# Altium schematic symbol library 3.4 - Holtek合泰单片机.SchLib: 87 symbols (part 1 of 2)
Pins are listed as number, name and electrical type; pins without a type are passive.

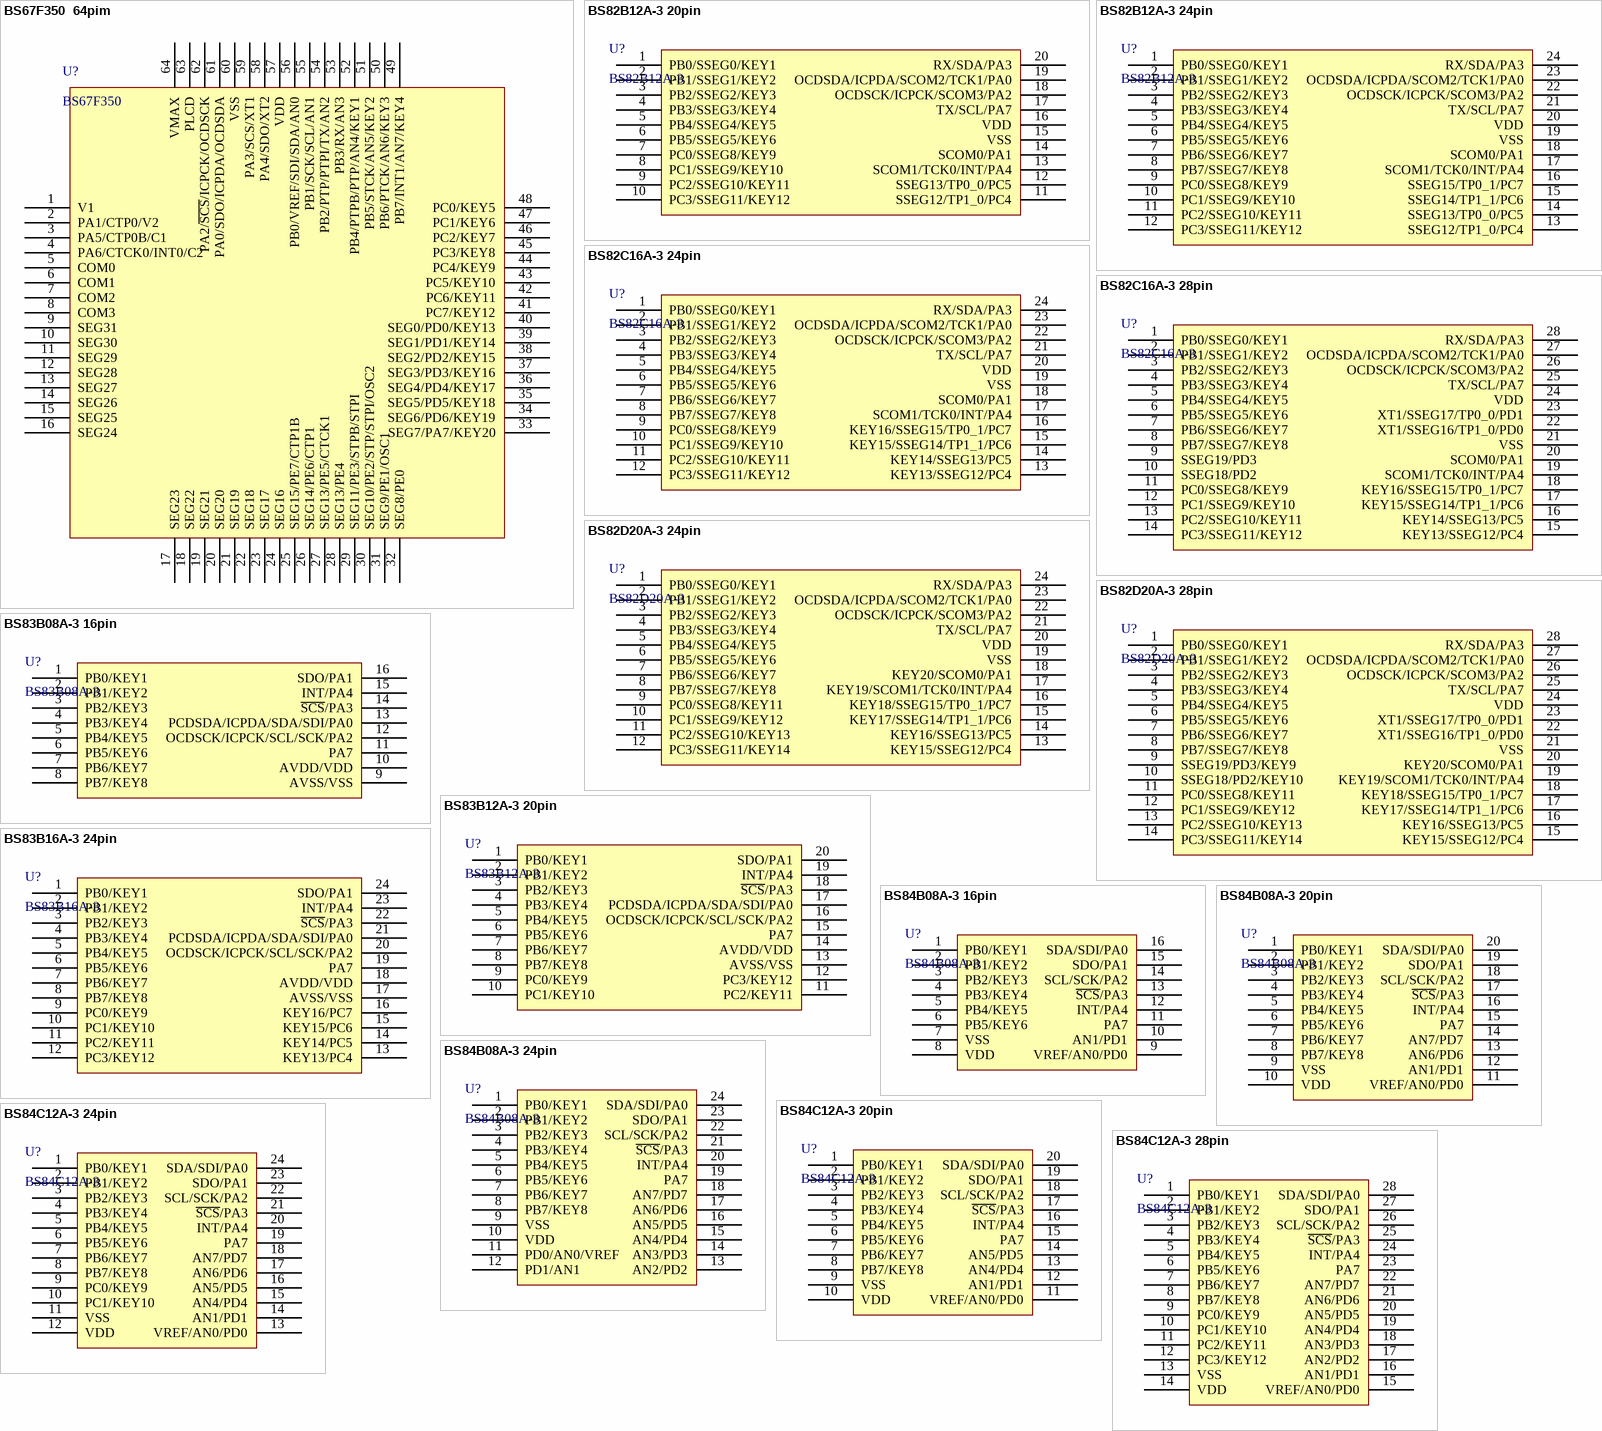
[diagram p0: symbols BS67F350  64pim to BS84C12A-3 28pin]

## BS67F350  64pim
designator U?, comment BS67F350
LCD/AD增强触控型; 1.库作者: 冰凌猫; 2.库版本: v2.0 (2021.03.30); 3.交流分享: Q群514746572,开源更新,欢迎一起交流学习PCB设计; 4.作者声明: 旨为整合最全库集,欢迎转载,禁止商用！-冰凌猫; 5.备注说明: 该库已二次整合过网上各热销库,基本最全,无需重复搜购安装; 0.0_BOM名称: LCD/AD增强触控型
footprint LQFP64 7x7_L (64脚，体宽：7x7mm, 脚距：0.4mm)
footprint LQFP64 7x7_M (64脚，体宽：7x7mm, 脚距：0.4mm)
footprint LQFP64 7x7_N (64脚，体宽：7x7mm, 脚距：0.4mm)
pins: 1 V1, 2 PA1/CTP0/V2, 3 PA5/CTP0B/C1, 4 PA6/CTCK0/INT0/C2, 5 COM0, 6 COM1, 7 COM2, 8 COM3, 9 SEG31, 10 SEG30, 11 SEG29, 12 SEG28, 13 SEG27, 14 SEG26, 15 SEG25, 16 SEG24, 17 SEG23, 18 SEG22, 19 SEG21, 20 SEG20, 21 SEG19, 22 SEG18, 23 SEG17, 24 SEG16, 25 SEG15/PE7/CTP1B, 26 SEG14/PE6/CTP1, 27 SEG13/PE5/CTCK1, 28 SEG13/PE4, 29 SEG11/PE3/STPB/STPI, 30 SEG10/PE2/STP/STPI/OSC2, 31 SEG9/PE1/OSC1, 32 SEG8/PE0, 33 SEG7/PA7/KEY20, 34 SEG6/PD6/KEY19, 35 SEG5/PD5/KEY18, 36 SEG4/PD4/KEY17, 37 SEG3/PD3/KEY16, 38 SEG2/PD2/KEY15, 39 SEG1/PD1/KEY14, 40 SEG0/PD0/KEY13, 41 PC7/KEY12, 42 PC6/KEY11, 43 PC5/KEY10, 44 PC4/KEY9, 45 PC3/KEY8, 46 PC2/KEY7, 47 PC1/KEY6, 48 PC0/KEY5, 49 PB7/INT1/AN7/KEY4, 50 PB6/PTCK/AN6/KEY3, 51 PB5/STCK/AN5/KEY2, 52 PB4/PTPB/PTP/AN4/KEY1, 53 PB3/RX/AN3, 54 PB2/PTP/PTPI/TX/AN2, 55 PB1/SCK/SCL/AN1, 56 PB0/VREF/SDI/SDA/AN0, 57 VDD, 58 PA4/SDO/XT2, 59 PA3/SCS/XT1, 60 VSS, 61 PA0/SDO/ICPDA/OCDSDA, 62 PA2/~{SCS}/ICPCK/OCDSCK, 63 PLCD, 64 VMAX

## BS82B12A-3 20pin
designator U?, comment BS82B12A-3
LCD/LED/触控型; 1.库作者: 冰凌猫; 2.库版本: v2.0 (2021.03.30); 3.交流分享: Q群514746572,开源更新,欢迎一起交流学习PCB设计; 4.作者声明: 旨为整合最全库集,欢迎转载,禁止商用！-冰凌猫; 5.备注说明: 该库已二次整合过网上各热销库,基本最全,无需重复搜购安装; 0.0_BOM名称: LCD/LED/触控型
footprint SOP20_L (13*10.6*2.6（长宽高）)
footprint SOP20_N (13*10.6*2.6（长宽高）)
footprint SOP20_M (13*10.6*2.6（长宽高）)
pins: 1 PB0/SSEG0/KEY1, 2 PB1/SSEG1/KEY2, 3 PB2/SSEG2/KEY3, 4 PB3/SSEG3/KEY4, 5 PB4/SSEG4/KEY5, 6 PB5/SSEG5/KEY6, 7 PC0/SSEG8/KEY9, 8 PC1/SSEG9/KEY10, 9 PC2/SSEG10/KEY11, 10 PC3/SSEG11/KEY12, 11 SSEG12/TP1_0/PC4, 12 SSEG13/TP0_0/PC5, 13 SCOM1/TCK0/INT/PA4, 14 SCOM0/PA1, 15 VSS, 16 VDD, 17 TX/SCL/PA7, 18 OCDSCK/ICPCK/SCOM3/PA2, 19 OCDSDA/ICPDA/SCOM2/TCK1/PA0, 20 RX/SDA/PA3

## BS82B12A-3 24pin
designator U?, comment BS82B12A-3
LCD/LED/触控型; 1.库作者: 冰凌猫; 2.库版本: v2.0 (2021.03.30); 3.交流分享: Q群514746572,开源更新,欢迎一起交流学习PCB设计; 4.作者声明: 旨为整合最全库集,欢迎转载,禁止商用！-冰凌猫; 5.备注说明: 该库已二次整合过网上各热销库,基本最全,无需重复搜购安装; 0.0_BOM名称: LCD/LED/触控型
footprint SOP24_L (15.4*10.6*2.6mm（长宽高）)
footprint SOP24_N (15.4*10.6*2.6mm（长宽高）)
footprint SOP24_M (15.4*10.6*2.6mm（长宽高）)
pins: 1 PB0/SSEG0/KEY1, 2 PB1/SSEG1/KEY2, 3 PB2/SSEG2/KEY3, 4 PB3/SSEG3/KEY4, 5 PB4/SSEG4/KEY5, 6 PB5/SSEG5/KEY6, 7 PB6/SSEG6/KEY7, 8 PB7/SSEG7/KEY8, 9 PC0/SSEG8/KEY9, 10 PC1/SSEG9/KEY10, 11 PC2/SSEG10/KEY11, 12 PC3/SSEG11/KEY12, 13 SSEG12/TP1_0/PC4, 14 SSEG13/TP0_0/PC5, 15 SSEG14/TP1_1/PC6, 16 SSEG15/TP0_1/PC7, 17 SCOM1/TCK0/INT/PA4, 18 SCOM0/PA1, 19 VSS, 20 VDD, 21 TX/SCL/PA7, 22 OCDSCK/ICPCK/SCOM3/PA2, 23 OCDSDA/ICPDA/SCOM2/TCK1/PA0, 24 RX/SDA/PA3

## BS82C16A-3 24pin
designator U?, comment BS82C16A-3
LCD/LED/触控型; 1.库作者: 冰凌猫; 2.库版本: v2.0 (2021.03.30); 3.交流分享: Q群514746572,开源更新,欢迎一起交流学习PCB设计; 4.作者声明: 旨为整合最全库集,欢迎转载,禁止商用！-冰凌猫; 5.备注说明: 该库已二次整合过网上各热销库,基本最全,无需重复搜购安装; 0.0_BOM名称: LCD/LED/触控型
footprint SOP24_L (15.4*10.6*2.6mm（长宽高）)
footprint SOP24_N (15.4*10.6*2.6mm（长宽高）)
footprint SOP24_M (15.4*10.6*2.6mm（长宽高）)
pins: 1 PB0/SSEG0/KEY1, 2 PB1/SSEG1/KEY2, 3 PB2/SSEG2/KEY3, 4 PB3/SSEG3/KEY4, 5 PB4/SSEG4/KEY5, 6 PB5/SSEG5/KEY6, 7 PB6/SSEG6/KEY7, 8 PB7/SSEG7/KEY8, 9 PC0/SSEG8/KEY9, 10 PC1/SSEG9/KEY10, 11 PC2/SSEG10/KEY11, 12 PC3/SSEG11/KEY12, 13 KEY13/SSEG12/PC4, 14 KEY14/SSEG13/PC5, 15 KEY15/SSEG14/TP1_1/PC6, 16 KEY16/SSEG15/TP0_1/PC7, 17 SCOM1/TCK0/INT/PA4, 18 SCOM0/PA1, 19 VSS, 20 VDD, 21 TX/SCL/PA7, 22 OCDSCK/ICPCK/SCOM3/PA2, 23 OCDSDA/ICPDA/SCOM2/TCK1/PA0, 24 RX/SDA/PA3

## BS82C16A-3 28pin
designator U?, comment BS82C16A-3
LCD/LED/触控型; 1.库作者: 冰凌猫; 2.库版本: v2.0 (2021.03.30); 3.交流分享: Q群514746572,开源更新,欢迎一起交流学习PCB设计; 4.作者声明: 旨为整合最全库集,欢迎转载,禁止商用！-冰凌猫; 5.备注说明: 该库已二次整合过网上各热销库,基本最全,无需重复搜购安装; 0.0_BOM名称: LCD/LED/触控型
footprint SOP28_L (17.9*10.6*2.6mm（长宽高）)
footprint SOP28_N (17.9*10.6*2.6mm（长宽高）)
footprint SOP28_M (17.9*10.6*2.6mm（长宽高）)
pins: 1 PB0/SSEG0/KEY1, 2 PB1/SSEG1/KEY2, 3 PB2/SSEG2/KEY3, 4 PB3/SSEG3/KEY4, 5 PB4/SSEG4/KEY5, 6 PB5/SSEG5/KEY6, 7 PB6/SSEG6/KEY7, 8 PB7/SSEG7/KEY8, 9 SSEG19/PD3, 10 SSEG18/PD2, 11 PC0/SSEG8/KEY9, 12 PC1/SSEG9/KEY10, 13 PC2/SSEG10/KEY11, 14 PC3/SSEG11/KEY12, 15 KEY13/SSEG12/PC4, 16 KEY14/SSEG13/PC5, 17 KEY15/SSEG14/TP1_1/PC6, 18 KEY16/SSEG15/TP0_1/PC7, 19 SCOM1/TCK0/INT/PA4, 20 SCOM0/PA1, 21 VSS, 22 XT1/SSEG16/TP1_0/PD0, 23 XT1/SSEG17/TP0_0/PD1, 24 VDD, 25 TX/SCL/PA7, 26 OCDSCK/ICPCK/SCOM3/PA2, 27 OCDSDA/ICPDA/SCOM2/TCK1/PA0, 28 RX/SDA/PA3

## BS82D20A-3 24pin
designator U?, comment BS82D20A-3
LCD/LED/触控型; 1.库作者: 冰凌猫; 2.库版本: v2.0 (2021.03.30); 3.交流分享: Q群514746572,开源更新,欢迎一起交流学习PCB设计; 4.作者声明: 旨为整合最全库集,欢迎转载,禁止商用！-冰凌猫; 5.备注说明: 该库已二次整合过网上各热销库,基本最全,无需重复搜购安装; 0.0_BOM名称: LCD/LED/触控型
footprint SOP24_L (15.4*10.6*2.6mm（长宽高）)
footprint SOP24_N (15.4*10.6*2.6mm（长宽高）)
footprint SOP24_M (15.4*10.6*2.6mm（长宽高）)
pins: 1 PB0/SSEG0/KEY1, 2 PB1/SSEG1/KEY2, 3 PB2/SSEG2/KEY3, 4 PB3/SSEG3/KEY4, 5 PB4/SSEG4/KEY5, 6 PB5/SSEG5/KEY6, 7 PB6/SSEG6/KEY7, 8 PB7/SSEG7/KEY8, 9 PC0/SSEG8/KEY11, 10 PC1/SSEG9/KEY12, 11 PC2/SSEG10/KEY13, 12 PC3/SSEG11/KEY14, 13 KEY15/SSEG12/PC4, 14 KEY16/SSEG13/PC5, 15 KEY17/SSEG14/TP1_1/PC6, 16 KEY18/SSEG15/TP0_1/PC7, 17 KEY19/SCOM1/TCK0/INT/PA4, 18 KEY20/SCOM0/PA1, 19 VSS, 20 VDD, 21 TX/SCL/PA7, 22 OCDSCK/ICPCK/SCOM3/PA2, 23 OCDSDA/ICPDA/SCOM2/TCK1/PA0, 24 RX/SDA/PA3

## BS82D20A-3 28pin
designator U?, comment BS82D20A-3
LCD/LED/触控型; 1.库作者: 冰凌猫; 2.库版本: v2.0 (2021.03.30); 3.交流分享: Q群514746572,开源更新,欢迎一起交流学习PCB设计; 4.作者声明: 旨为整合最全库集,欢迎转载,禁止商用！-冰凌猫; 5.备注说明: 该库已二次整合过网上各热销库,基本最全,无需重复搜购安装; 0.0_BOM名称: LCD/LED/触控型
footprint SOP28_L (17.9*10.6*2.6mm（长宽高）)
footprint SOP28_N (17.9*10.6*2.6mm（长宽高）)
footprint SOP28_M (17.9*10.6*2.6mm（长宽高）)
pins: 1 PB0/SSEG0/KEY1, 2 PB1/SSEG1/KEY2, 3 PB2/SSEG2/KEY3, 4 PB3/SSEG3/KEY4, 5 PB4/SSEG4/KEY5, 6 PB5/SSEG5/KEY6, 7 PB6/SSEG6/KEY7, 8 PB7/SSEG7/KEY8, 9 SSEG19/PD3/KEY9, 10 SSEG18/PD2/KEY10, 11 PC0/SSEG8/KEY11, 12 PC1/SSEG9/KEY12, 13 PC2/SSEG10/KEY13, 14 PC3/SSEG11/KEY14, 15 KEY15/SSEG12/PC4, 16 KEY16/SSEG13/PC5, 17 KEY17/SSEG14/TP1_1/PC6, 18 KEY18/SSEG15/TP0_1/PC7, 19 KEY19/SCOM1/TCK0/INT/PA4, 20 KEY20/SCOM0/PA1, 21 VSS, 22 XT1/SSEG16/TP1_0/PD0, 23 XT1/SSEG17/TP0_0/PD1, 24 VDD, 25 TX/SCL/PA7, 26 OCDSCK/ICPCK/SCOM3/PA2, 27 OCDSDA/ICPDA/SCOM2/TCK1/PA0, 28 RX/SDA/PA3

## BS83B08A-3 16pin
designator U?, comment BS83B08A-3
触控型; 1.库作者: 冰凌猫; 2.库版本: v2.0 (2021.03.30); 3.交流分享: Q群514746572,开源更新,欢迎一起交流学习PCB设计; 4.作者声明: 旨为整合最全库集,欢迎转载,禁止商用！-冰凌猫; 5.备注说明: 该库已二次整合过网上各热销库,基本最全,无需重复搜购安装; 0.0_BOM名称: 触控型
footprint SOP16_L (10.3*6.2*1.8mm（长宽高）)
footprint SOP16_N (10.3*6.2*1.8mm（长宽高）)
footprint SOP16_M (10.3*6.2*1.8mm（长宽高）)
footprint SSOP16_L (6.3*7.7*1.6mm（长宽高）)
footprint SSOP16_N (6.3*7.7*1.6mm（长宽高）)
footprint SSOP16_M (6.3*7.7*1.6mm（长宽高）)
pins: 1 PB0/KEY1, 2 PB1/KEY2, 3 PB2/KEY3, 4 PB3/KEY4, 5 PB4/KEY5, 6 PB5/KEY6, 7 PB6/KEY7, 8 PB7/KEY8, 9 AVSS/VSS, 10 AVDD/VDD, 11 PA7, 12 OCDSCK/ICPCK/SCL/SCK/PA2, 13 PCDSDA/ICPDA/SDA/SDI/PA0, 14 ~{SCS}/PA3, 15 INT/PA4, 16 SDO/PA1

## BS83B12A-3 20pin
designator U?, comment BS83B12A-3
触控型; 1.库作者: 冰凌猫; 2.库版本: v2.0 (2021.03.30); 3.交流分享: Q群514746572,开源更新,欢迎一起交流学习PCB设计; 4.作者声明: 旨为整合最全库集,欢迎转载,禁止商用！-冰凌猫; 5.备注说明: 该库已二次整合过网上各热销库,基本最全,无需重复搜购安装; 0.0_BOM名称: 触控型
footprint SOP20_L (13*10.6*2.6（长宽高）)
footprint SOP20_N (13*10.6*2.6（长宽高）)
footprint SOP20_M (13*10.6*2.6（长宽高）)
footprint SSOP20_L (7.2*7.8*1.6（长宽高）)
footprint SSOP20_N (7.2*7.8*1.6（长宽高）)
footprint SSOP20_M (7.2*7.8*1.6（长宽高）)
pins: 1 PB0/KEY1, 2 PB1/KEY2, 3 PB2/KEY3, 4 PB3/KEY4, 5 PB4/KEY5, 6 PB5/KEY6, 7 PB6/KEY7, 8 PB7/KEY8, 9 PC0/KEY9, 10 PC1/KEY10, 11 PC2/KEY11, 12 PC3/KEY12, 13 AVSS/VSS, 14 AVDD/VDD, 15 PA7, 16 OCDSCK/ICPCK/SCL/SCK/PA2, 17 PCDSDA/ICPDA/SDA/SDI/PA0, 18 ~{SCS}/PA3, 19 INT/PA4, 20 SDO/PA1

## BS83B16A-3 24pin
designator U?, comment BS83B16A-3
触控型; 1.库作者: 冰凌猫; 2.库版本: v2.0 (2021.03.30); 3.交流分享: Q群514746572,开源更新,欢迎一起交流学习PCB设计; 4.作者声明: 旨为整合最全库集,欢迎转载,禁止商用！-冰凌猫; 5.备注说明: 该库已二次整合过网上各热销库,基本最全,无需重复搜购安装; 0.0_BOM名称: 触控型
footprint SOP24_L (15.4*10.6*2.6mm（长宽高）)
footprint SOP24_N (15.4*10.6*2.6mm（长宽高）)
footprint SOP24_M (15.4*10.6*2.6mm（长宽高）)
footprint SSOP24_L (8.3*7.8*1.6（长宽高）)
footprint SSOP24_N (8.3*7.8*1.6（长宽高）)
footprint SSOP24_M (8.3*7.8*1.6（长宽高）)
pins: 1 PB0/KEY1, 2 PB1/KEY2, 3 PB2/KEY3, 4 PB3/KEY4, 5 PB4/KEY5, 6 PB5/KEY6, 7 PB6/KEY7, 8 PB7/KEY8, 9 PC0/KEY9, 10 PC1/KEY10, 11 PC2/KEY11, 12 PC3/KEY12, 13 KEY13/PC4, 14 KEY14/PC5, 15 KEY15/PC6, 16 KEY16/PC7, 17 AVSS/VSS, 18 AVDD/VDD, 19 PA7, 20 OCDSCK/ICPCK/SCL/SCK/PA2, 21 PCDSDA/ICPDA/SDA/SDI/PA0, 22 ~{SCS}/PA3, 23 INT/PA4, 24 SDO/PA1

## BS84B08A-3 16pin
designator U?, comment BS84B08A-3
AD/触控型; 1.库作者: 冰凌猫; 2.库版本: v2.0 (2021.03.30); 3.交流分享: Q群514746572,开源更新,欢迎一起交流学习PCB设计; 4.作者声明: 旨为整合最全库集,欢迎转载,禁止商用！-冰凌猫; 5.备注说明: 该库已二次整合过网上各热销库,基本最全,无需重复搜购安装; 0.0_BOM名称: AD/触控型
footprint SOP16_L (10.3*6.2*1.8mm（长宽高）)
footprint SOP16_N (10.3*6.2*1.8mm（长宽高）)
footprint SOP16_M (10.3*6.2*1.8mm（长宽高）)
pins: 1 PB0/KEY1, 2 PB1/KEY2, 3 PB2/KEY3, 4 PB3/KEY4, 5 PB4/KEY5, 6 PB5/KEY6, 7 VSS, 8 VDD, 9 VREF/AN0/PD0, 10 AN1/PD1, 11 PA7, 12 INT/PA4, 13 ~{SCS}/PA3, 14 SCL/SCK/PA2, 15 SDO/PA1, 16 SDA/SDI/PA0

## BS84B08A-3 20pin
designator U?, comment BS84B08A-3
AD/触控型; 1.库作者: 冰凌猫; 2.库版本: v2.0 (2021.03.30); 3.交流分享: Q群514746572,开源更新,欢迎一起交流学习PCB设计; 4.作者声明: 旨为整合最全库集,欢迎转载,禁止商用！-冰凌猫; 5.备注说明: 该库已二次整合过网上各热销库,基本最全,无需重复搜购安装; 0.0_BOM名称: AD/触控型
footprint SOP20_L (13*10.6*2.6（长宽高）)
footprint SOP20_N (13*10.6*2.6（长宽高）)
footprint SOP20_M (13*10.6*2.6（长宽高）)
pins: 1 PB0/KEY1, 2 PB1/KEY2, 3 PB2/KEY3, 4 PB3/KEY4, 5 PB4/KEY5, 6 PB5/KEY6, 7 PB6/KEY7, 8 PB7/KEY8, 9 VSS, 10 VDD, 11 VREF/AN0/PD0, 12 AN1/PD1, 13 AN6/PD6, 14 AN7/PD7, 15 PA7, 16 INT/PA4, 17 ~{SCS}/PA3, 18 SCL/SCK/PA2, 19 SDO/PA1, 20 SDA/SDI/PA0

## BS84B08A-3 24pin
designator U?, comment BS84B08A-3
AD/触控型; 1.库作者: 冰凌猫; 2.库版本: v2.0 (2021.03.30); 3.交流分享: Q群514746572,开源更新,欢迎一起交流学习PCB设计; 4.作者声明: 旨为整合最全库集,欢迎转载,禁止商用！-冰凌猫; 5.备注说明: 该库已二次整合过网上各热销库,基本最全,无需重复搜购安装; 0.0_BOM名称: AD/触控型
footprint SOP24_L (15.4*10.6*2.6mm（长宽高）)
footprint SOP24_N (15.4*10.6*2.6mm（长宽高）)
footprint SOP24_M (15.4*10.6*2.6mm（长宽高）)
pins: 1 PB0/KEY1, 2 PB1/KEY2, 3 PB2/KEY3, 4 PB3/KEY4, 5 PB4/KEY5, 6 PB5/KEY6, 7 PB6/KEY7, 8 PB7/KEY8, 9 VSS, 10 VDD, 11 PD0/AN0/VREF, 12 PD1/AN1, 13 AN2/PD2, 14 AN3/PD3, 15 AN4/PD4, 16 AN5/PD5, 17 AN6/PD6, 18 AN7/PD7, 19 PA7, 20 INT/PA4, 21 ~{SCS}/PA3, 22 SCL/SCK/PA2, 23 SDO/PA1, 24 SDA/SDI/PA0

## BS84C12A-3 20pin
designator U?, comment BS84C12A-3
AD/触控型; 1.库作者: 冰凌猫; 2.库版本: v2.0 (2021.03.30); 3.交流分享: Q群514746572,开源更新,欢迎一起交流学习PCB设计; 4.作者声明: 旨为整合最全库集,欢迎转载,禁止商用！-冰凌猫; 5.备注说明: 该库已二次整合过网上各热销库,基本最全,无需重复搜购安装; 0.0_BOM名称: AD/触控型
footprint SOP20_L (13*10.6*2.6（长宽高）)
footprint SOP20_N (13*10.6*2.6（长宽高）)
footprint SOP20_M (13*10.6*2.6（长宽高）)
pins: 1 PB0/KEY1, 2 PB1/KEY2, 3 PB2/KEY3, 4 PB3/KEY4, 5 PB4/KEY5, 6 PB5/KEY6, 7 PB6/KEY7, 8 PB7/KEY8, 9 VSS, 10 VDD, 11 VREF/AN0/PD0, 12 AN1/PD1, 13 AN4/PD4, 14 AN5/PD5, 15 PA7, 16 INT/PA4, 17 ~{SCS}/PA3, 18 SCL/SCK/PA2, 19 SDO/PA1, 20 SDA/SDI/PA0

## BS84C12A-3 24pin
designator U?, comment BS84C12A-3
AD/触控型; 1.库作者: 冰凌猫; 2.库版本: v2.0 (2021.03.30); 3.交流分享: Q群514746572,开源更新,欢迎一起交流学习PCB设计; 4.作者声明: 旨为整合最全库集,欢迎转载,禁止商用！-冰凌猫; 5.备注说明: 该库已二次整合过网上各热销库,基本最全,无需重复搜购安装; 0.0_BOM名称: AD/触控型
footprint SOP24_L (15.4*10.6*2.6mm（长宽高）)
footprint SOP24_N (15.4*10.6*2.6mm（长宽高）)
footprint SOP24_M (15.4*10.6*2.6mm（长宽高）)
pins: 1 PB0/KEY1, 2 PB1/KEY2, 3 PB2/KEY3, 4 PB3/KEY4, 5 PB4/KEY5, 6 PB5/KEY6, 7 PB6/KEY7, 8 PB7/KEY8, 9 PC0/KEY9, 10 PC1/KEY10, 11 VSS, 12 VDD, 13 VREF/AN0/PD0, 14 AN1/PD1, 15 AN4/PD4, 16 AN5/PD5, 17 AN6/PD6, 18 AN7/PD7, 19 PA7, 20 INT/PA4, 21 ~{SCS}/PA3, 22 SCL/SCK/PA2, 23 SDO/PA1, 24 SDA/SDI/PA0

## BS84C12A-3 28pin
designator U?, comment BS84C12A-3
AD/触控型; 1.库作者: 冰凌猫; 2.库版本: v2.0 (2021.03.30); 3.交流分享: Q群514746572,开源更新,欢迎一起交流学习PCB设计; 4.作者声明: 旨为整合最全库集,欢迎转载,禁止商用！-冰凌猫; 5.备注说明: 该库已二次整合过网上各热销库,基本最全,无需重复搜购安装; 0.0_BOM名称: AD/触控型
footprint SOP28_L (17.9*10.6*2.6mm（长宽高）)
footprint SOP28_N (17.9*10.6*2.6mm（长宽高）)
footprint SOP28_M (17.9*10.6*2.6mm（长宽高）)
pins: 1 PB0/KEY1, 2 PB1/KEY2, 3 PB2/KEY3, 4 PB3/KEY4, 5 PB4/KEY5, 6 PB5/KEY6, 7 PB6/KEY7, 8 PB7/KEY8, 9 PC0/KEY9, 10 PC1/KEY10, 11 PC2/KEY11, 12 PC3/KEY12, 13 VSS, 14 VDD, 15 VREF/AN0/PD0, 16 AN1/PD1, 17 AN2/PD2, 18 AN3/PD3, 19 AN4/PD4, 20 AN5/PD5, 21 AN6/PD6, 22 AN7/PD7, 23 PA7, 24 INT/PA4, 25 ~{SCS}/PA3, 26 SCL/SCK/PA2, 27 SDO/PA1, 28 SDA/SDI/PA0

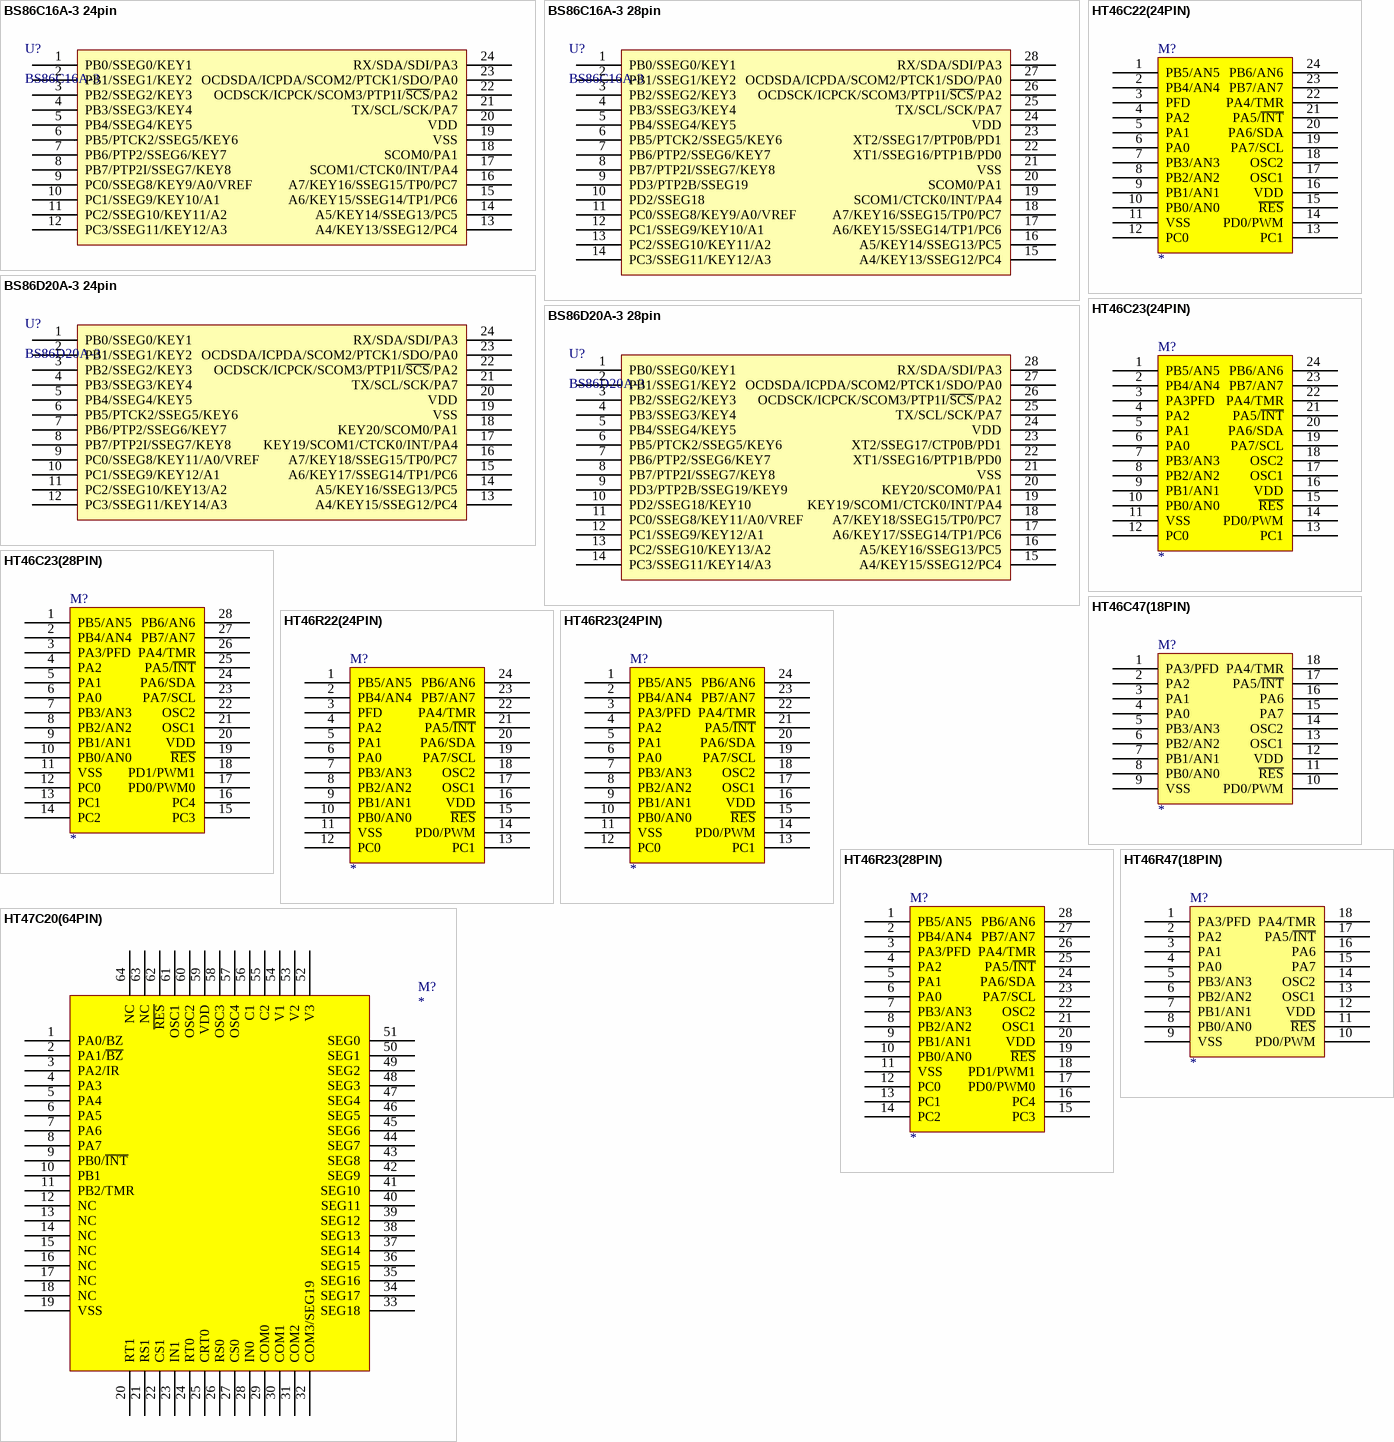
[diagram p1: symbols BS86C16A-3 24pin to HT47C20(64PIN)]

## BS86C16A-3 24pin
designator U?, comment BS86C16A-3
LCD/LED/AD/触控型; 1.库作者: 冰凌猫; 2.库版本: v2.0 (2021.03.30); 3.交流分享: Q群514746572,开源更新,欢迎一起交流学习PCB设计; 4.作者声明: 旨为整合最全库集,欢迎转载,禁止商用！-冰凌猫; 5.备注说明: 该库已二次整合过网上各热销库,基本最全,无需重复搜购安装; 0.0_BOM名称: LCD/LED/AD/触控型
footprint SOP24_L (15.4*10.6*2.6mm（长宽高）)
footprint SOP24_N (15.4*10.6*2.6mm（长宽高）)
footprint SOP24_M (15.4*10.6*2.6mm（长宽高）)
pins: 1 PB0/SSEG0/KEY1, 2 PB1/SSEG1/KEY2, 3 PB2/SSEG2/KEY3, 4 PB3/SSEG3/KEY4, 5 PB4/SSEG4/KEY5, 6 PB5/PTCK2/SSEG5/KEY6, 7 PB6/PTP2/SSEG6/KEY7, 8 PB7/PTP2I/SSEG7/KEY8, 9 PC0/SSEG8/KEY9/A0/VREF, 10 PC1/SSEG9/KEY10/A1, 11 PC2/SSEG10/KEY11/A2, 12 PC3/SSEG11/KEY12/A3, 13 A4/KEY13/SSEG12/PC4, 14 A5/KEY14/SSEG13/PC5, 15 A6/KEY15/SSEG14/TP1/PC6, 16 A7/KEY16/SSEG15/TP0/PC7, 17 SCOM1/CTCK0/INT/PA4, 18 SCOM0/PA1, 19 VSS, 20 VDD, 21 TX/SCL/SCK/PA7, 22 OCDSCK/ICPCK/SCOM3/PTP1I/~{SCS}/PA2, 23 OCDSDA/ICPDA/SCOM2/PTCK1/SDO/PA0, 24 RX/SDA/SDI/PA3

## BS86C16A-3 28pin
designator U?, comment BS86C16A-3
LCD/LED/AD/触控型; 1.库作者: 冰凌猫; 2.库版本: v2.0 (2021.03.30); 3.交流分享: Q群514746572,开源更新,欢迎一起交流学习PCB设计; 4.作者声明: 旨为整合最全库集,欢迎转载,禁止商用！-冰凌猫; 5.备注说明: 该库已二次整合过网上各热销库,基本最全,无需重复搜购安装; 0.0_BOM名称: LCD/LED/AD/触控型
footprint SOP28_L (17.9*10.6*2.6mm（长宽高）)
footprint SOP28_N (17.9*10.6*2.6mm（长宽高）)
footprint SOP28_M (17.9*10.6*2.6mm（长宽高）)
pins: 1 PB0/SSEG0/KEY1, 2 PB1/SSEG1/KEY2, 3 PB2/SSEG2/KEY3, 4 PB3/SSEG3/KEY4, 5 PB4/SSEG4/KEY5, 6 PB5/PTCK2/SSEG5/KEY6, 7 PB6/PTP2/SSEG6/KEY7, 8 PB7/PTP2I/SSEG7/KEY8, 9 PD3/PTP2B/SSEG19, 10 PD2/SSEG18, 11 PC0/SSEG8/KEY9/A0/VREF, 12 PC1/SSEG9/KEY10/A1, 13 PC2/SSEG10/KEY11/A2, 14 PC3/SSEG11/KEY12/A3, 15 A4/KEY13/SSEG12/PC4, 16 A5/KEY14/SSEG13/PC5, 17 A6/KEY15/SSEG14/TP1/PC6, 18 A7/KEY16/SSEG15/TP0/PC7, 19 SCOM1/CTCK0/INT/PA4, 20 SCOM0/PA1, 21 VSS, 22 XT1/SSEG16/PTP1B/PD0, 23 XT2/SSEG17/PTP0B/PD1, 24 VDD, 25 TX/SCL/SCK/PA7, 26 OCDSCK/ICPCK/SCOM3/PTP1I/~{SCS}/PA2, 27 OCDSDA/ICPDA/SCOM2/PTCK1/SDO/PA0, 28 RX/SDA/SDI/PA3

## BS86D20A-3 24pin
designator U?, comment BS86D20A-3
LCD/LED/AD/触控型; 1.库作者: 冰凌猫; 2.库版本: v2.0 (2021.03.30); 3.交流分享: Q群514746572,开源更新,欢迎一起交流学习PCB设计; 4.作者声明: 旨为整合最全库集,欢迎转载,禁止商用！-冰凌猫; 5.备注说明: 该库已二次整合过网上各热销库,基本最全,无需重复搜购安装; 0.0_BOM名称: LCD/LED/AD/触控型
footprint SOP24_L (15.4*10.6*2.6mm（长宽高）)
footprint SOP24_N (15.4*10.6*2.6mm（长宽高）)
footprint SOP24_M (15.4*10.6*2.6mm（长宽高）)
pins: 1 PB0/SSEG0/KEY1, 2 PB1/SSEG1/KEY2, 3 PB2/SSEG2/KEY3, 4 PB3/SSEG3/KEY4, 5 PB4/SSEG4/KEY5, 6 PB5/PTCK2/SSEG5/KEY6, 7 PB6/PTP2/SSEG6/KEY7, 8 PB7/PTP2I/SSEG7/KEY8, 9 PC0/SSEG8/KEY11/A0/VREF, 10 PC1/SSEG9/KEY12/A1, 11 PC2/SSEG10/KEY13/A2, 12 PC3/SSEG11/KEY14/A3, 13 A4/KEY15/SSEG12/PC4, 14 A5/KEY16/SSEG13/PC5, 15 A6/KEY17/SSEG14/TP1/PC6, 16 A7/KEY18/SSEG15/TP0/PC7, 17 KEY19/SCOM1/CTCK0/INT/PA4, 18 KEY20/SCOM0/PA1, 19 VSS, 20 VDD, 21 TX/SCL/SCK/PA7, 22 OCDSCK/ICPCK/SCOM3/PTP1I/~{SCS}/PA2, 23 OCDSDA/ICPDA/SCOM2/PTCK1/SDO/PA0, 24 RX/SDA/SDI/PA3

## BS86D20A-3 28pin
designator U?, comment BS86D20A-3
LCD/LED/AD/触控型; 1.库作者: 冰凌猫; 2.库版本: v2.0 (2021.03.30); 3.交流分享: Q群514746572,开源更新,欢迎一起交流学习PCB设计; 4.作者声明: 旨为整合最全库集,欢迎转载,禁止商用！-冰凌猫; 5.备注说明: 该库已二次整合过网上各热销库,基本最全,无需重复搜购安装; 0.0_BOM名称: LCD/LED/AD/触控型
footprint SOP28_L (17.9*10.6*2.6mm（长宽高）)
footprint SOP28_N (17.9*10.6*2.6mm（长宽高）)
footprint SOP28_M (17.9*10.6*2.6mm（长宽高）)
pins: 1 PB0/SSEG0/KEY1, 2 PB1/SSEG1/KEY2, 3 PB2/SSEG2/KEY3, 4 PB3/SSEG3/KEY4, 5 PB4/SSEG4/KEY5, 6 PB5/PTCK2/SSEG5/KEY6, 7 PB6/PTP2/SSEG6/KEY7, 8 PB7/PTP2I/SSEG7/KEY8, 9 PD3/PTP2B/SSEG19/KEY9, 10 PD2/SSEG18/KEY10, 11 PC0/SSEG8/KEY11/A0/VREF, 12 PC1/SSEG9/KEY12/A1, 13 PC2/SSEG10/KEY13/A2, 14 PC3/SSEG11/KEY14/A3, 15 A4/KEY15/SSEG12/PC4, 16 A5/KEY16/SSEG13/PC5, 17 A6/KEY17/SSEG14/TP1/PC6, 18 A7/KEY18/SSEG15/TP0/PC7, 19 KEY19/SCOM1/CTCK0/INT/PA4, 20 KEY20/SCOM0/PA1, 21 VSS, 22 XT1/SSEG16/PTP1B/PD0, 23 XT2/SSEG17/CTP0B/PD1, 24 VDD, 25 TX/SCL/SCK/PA7, 26 OCDSCK/ICPCK/SCOM3/PTP1I/~{SCS}/PA2, 27 OCDSDA/ICPDA/SCOM2/PTCK1/SDO/PA0, 28 RX/SDA/SDI/PA3

## HT46C22(24PIN)
designator M?
HT46C22(24PIN); 1.库作者: 冰凌猫; 2.库版本: v2.0 (2021.03.30); 3.交流分享: Q群514746572,开源更新,欢迎一起交流学习PCB设计; 4.作者声明: 旨为整合最全库集,欢迎转载,禁止商用！-冰凌猫; 5.备注说明: 该库已二次整合过网上各热销库,基本最全,无需重复搜购安装
footprint SKDIP24
footprint SOP24
pins: 1 PB5/AN5, 2 PB4/AN4, 3 PFD, 4 PA2, 5 PA1, 6 PA0, 7 PB3/AN3, 8 PB2/AN2, 9 PB1/AN1, 10 PB0/AN0, 11 VSS, 12 PC0, 13 PC1, 14 PD0/PWM, 15 ~{RES}, 16 VDD, 17 OSC1, 18 OSC2, 19 PA7/SCL, 20 PA6/SDA, 21 PA5/~{INT}, 22 PA4/TMR, 23 PB7/AN7, 24 PB6/AN6

## HT46C23(24PIN)
designator M?
HT46C23(24PIN); 1.库作者: 冰凌猫; 2.库版本: v2.0 (2021.03.30); 3.交流分享: Q群514746572,开源更新,欢迎一起交流学习PCB设计; 4.作者声明: 旨为整合最全库集,欢迎转载,禁止商用！-冰凌猫; 5.备注说明: 该库已二次整合过网上各热销库,基本最全,无需重复搜购安装
footprint SKDIP24
footprint SOP24
pins: 1 PB5/AN5, 2 PB4/AN4, 3 PA3PFD, 4 PA2, 5 PA1, 6 PA0, 7 PB3/AN3, 8 PB2/AN2, 9 PB1/AN1, 10 PB0/AN0, 11 VSS, 12 PC0, 13 PC1, 14 PD0/PWM, 15 ~{RES}, 16 VDD, 17 OSC1, 18 OSC2, 19 PA7/SCL, 20 PA6/SDA, 21 PA5/~{INT}, 22 PA4/TMR, 23 PB7/AN7, 24 PB6/AN6

## HT46C23(28PIN)
designator M?
HT46R23(28PIN); 1.库作者: 冰凌猫; 2.库版本: v2.0 (2021.03.30); 3.交流分享: Q群514746572,开源更新,欢迎一起交流学习PCB设计; 4.作者声明: 旨为整合最全库集,欢迎转载,禁止商用！-冰凌猫; 5.备注说明: 该库已二次整合过网上各热销库,基本最全,无需重复搜购安装
footprint SKDIP28
footprint SOP28
pins: 1 PB5/AN5, 2 PB4/AN4, 3 PA3/PFD, 4 PA2, 5 PA1, 6 PA0, 7 PB3/AN3, 8 PB2/AN2, 9 PB1/AN1, 10 PB0/AN0, 11 VSS, 12 PC0, 13 PC1, 14 PC2, 15 PC3, 16 PC4, 17 PD0/PWM0, 18 PD1/PWM1, 19 ~{RES}, 20 VDD, 21 OSC1, 22 OSC2, 23 PA7/SCL, 24 PA6/SDA, 25 PA5/~{INT}, 26 PA4/TMR, 27 PB7/AN7, 28 PB6/AN6

## HT46C47(18PIN)
designator M?
HT46C47(18PIN); 1.库作者: 冰凌猫; 2.库版本: v2.0 (2021.03.30); 3.交流分享: Q群514746572,开源更新,欢迎一起交流学习PCB设计; 4.作者声明: 旨为整合最全库集,欢迎转载,禁止商用！-冰凌猫; 5.备注说明: 该库已二次整合过网上各热销库,基本最全,无需重复搜购安装
footprint DIP18
footprint SOP18
pins: 1 PA3/PFD, 2 PA2, 3 PA1, 4 PA0, 5 PB3/AN3, 6 PB2/AN2, 7 PB1/AN1, 8 PB0/AN0, 9 VSS, 10 PD0/PWM, 11 ~{RES}, 12 VDD, 13 OSC1, 14 OSC2, 15 PA7, 16 PA6, 17 PA5/~{INT}, 18 PA4/TMR

## HT46R22(24PIN)
designator M?
HT46R22(24PIN); 1.库作者: 冰凌猫; 2.库版本: v2.0 (2021.03.30); 3.交流分享: Q群514746572,开源更新,欢迎一起交流学习PCB设计; 4.作者声明: 旨为整合最全库集,欢迎转载,禁止商用！-冰凌猫; 5.备注说明: 该库已二次整合过网上各热销库,基本最全,无需重复搜购安装
footprint SKDIP24
footprint SOP24
pins: 1 PB5/AN5, 2 PB4/AN4, 3 PFD, 4 PA2, 5 PA1, 6 PA0, 7 PB3/AN3, 8 PB2/AN2, 9 PB1/AN1, 10 PB0/AN0, 11 VSS, 12 PC0, 13 PC1, 14 PD0/PWM, 15 ~{RES}, 16 VDD, 17 OSC1, 18 OSC2, 19 PA7/SCL, 20 PA6/SDA, 21 PA5/~{INT}, 22 PA4/TMR, 23 PB7/AN7, 24 PB6/AN6

## HT46R23(24PIN)
designator M?
HT46R23(24PIN); 1.库作者: 冰凌猫; 2.库版本: v2.0 (2021.03.30); 3.交流分享: Q群514746572,开源更新,欢迎一起交流学习PCB设计; 4.作者声明: 旨为整合最全库集,欢迎转载,禁止商用！-冰凌猫; 5.备注说明: 该库已二次整合过网上各热销库,基本最全,无需重复搜购安装
footprint SKDIP24
footprint SOP24
pins: 1 PB5/AN5, 2 PB4/AN4, 3 PA3/PFD, 4 PA2, 5 PA1, 6 PA0, 7 PB3/AN3, 8 PB2/AN2, 9 PB1/AN1, 10 PB0/AN0, 11 VSS, 12 PC0, 13 PC1, 14 PD0/PWM, 15 ~{RES}, 16 VDD, 17 OSC1, 18 OSC2, 19 PA7/SCL, 20 PA6/SDA, 21 PA5/~{INT}, 22 PA4/TMR, 23 PB7/AN7, 24 PB6/AN6

## HT46R23(28PIN)
designator M?
HT46R23(28PIN); 1.库作者: 冰凌猫; 2.库版本: v2.0 (2021.03.30); 3.交流分享: Q群514746572,开源更新,欢迎一起交流学习PCB设计; 4.作者声明: 旨为整合最全库集,欢迎转载,禁止商用！-冰凌猫; 5.备注说明: 该库已二次整合过网上各热销库,基本最全,无需重复搜购安装
footprint SKDIP28
footprint SOP28
pins: 1 PB5/AN5, 2 PB4/AN4, 3 PA3/PFD, 4 PA2, 5 PA1, 6 PA0, 7 PB3/AN3, 8 PB2/AN2, 9 PB1/AN1, 10 PB0/AN0, 11 VSS, 12 PC0, 13 PC1, 14 PC2, 15 PC3, 16 PC4, 17 PD0/PWM0, 18 PD1/PWM1, 19 ~{RES}, 20 VDD, 21 OSC1, 22 OSC2, 23 PA7/SCL, 24 PA6/SDA, 25 PA5/~{INT}, 26 PA4/TMR, 27 PB7/AN7, 28 PB6/AN6

## HT46R47(18PIN)
designator M?
HT46R47(18PIN); 1.库作者: 冰凌猫; 2.库版本: v2.0 (2021.03.30); 3.交流分享: Q群514746572,开源更新,欢迎一起交流学习PCB设计; 4.作者声明: 旨为整合最全库集,欢迎转载,禁止商用！-冰凌猫; 5.备注说明: 该库已二次整合过网上各热销库,基本最全,无需重复搜购安装
footprint DIP18
footprint SOP18
pins: 1 PA3/PFD, 2 PA2, 3 PA1, 4 PA0, 5 PB3/AN3, 6 PB2/AN2, 7 PB1/AN1, 8 PB0/AN0, 9 VSS, 10 PD0/PWM, 11 ~{RES}, 12 VDD, 13 OSC1, 14 OSC2, 15 PA7, 16 PA6, 17 PA5/~{INT}, 18 PA4/TMR

## HT47C20(64PIN)
designator M?
HT47C20(64PIN); 1.库作者: 冰凌猫; 2.库版本: v2.0 (2021.03.30); 3.交流分享: Q群514746572,开源更新,欢迎一起交流学习PCB设计; 4.作者声明: 旨为整合最全库集,欢迎转载,禁止商用！-冰凌猫; 5.备注说明: 该库已二次整合过网上各热销库,基本最全,无需重复搜购安装
footprint QFP64
pins: 1 PA0/BZ, 2 PA1/~{BZ}, 3 PA2/IR, 4 PA3, 5 PA4, 6 PA5, 7 PA6, 8 PA7, 9 PB0/~{INT}, 10 PB1, 11 PB2/TMR, 12 NC, 13 NC, 14 NC, 15 NC, 16 NC, 17 NC, 18 NC, 19 VSS, 20 RT1, 21 RS1, 22 CS1, 23 IN1, 24 RT0, 25 CRT0, 26 RS0, 27 CS0, 28 IN0, 29 COM0, 30 COM1, 31 COM2, 32 COM3/SEG19, 33 SEG18, 34 SEG17, 35 SEG16, 36 SEG15, 37 SEG14, 38 SEG13, 39 SEG12, 40 SEG11, 41 SEG10, 42 SEG9, 43 SEG8, 44 SEG7, 45 SEG6, 46 SEG5, 47 SEG4, 48 SEG3, 49 SEG2, 50 SEG1, 51 SEG0, 52 V3, 53 V2, 54 V1, 55 C2, 56 C1, 57 OSC4, 58 OSC3, 59 VDD, 60 OSC2, 61 OSC1, 62 ~{RES}, 63 NC, 64 NC

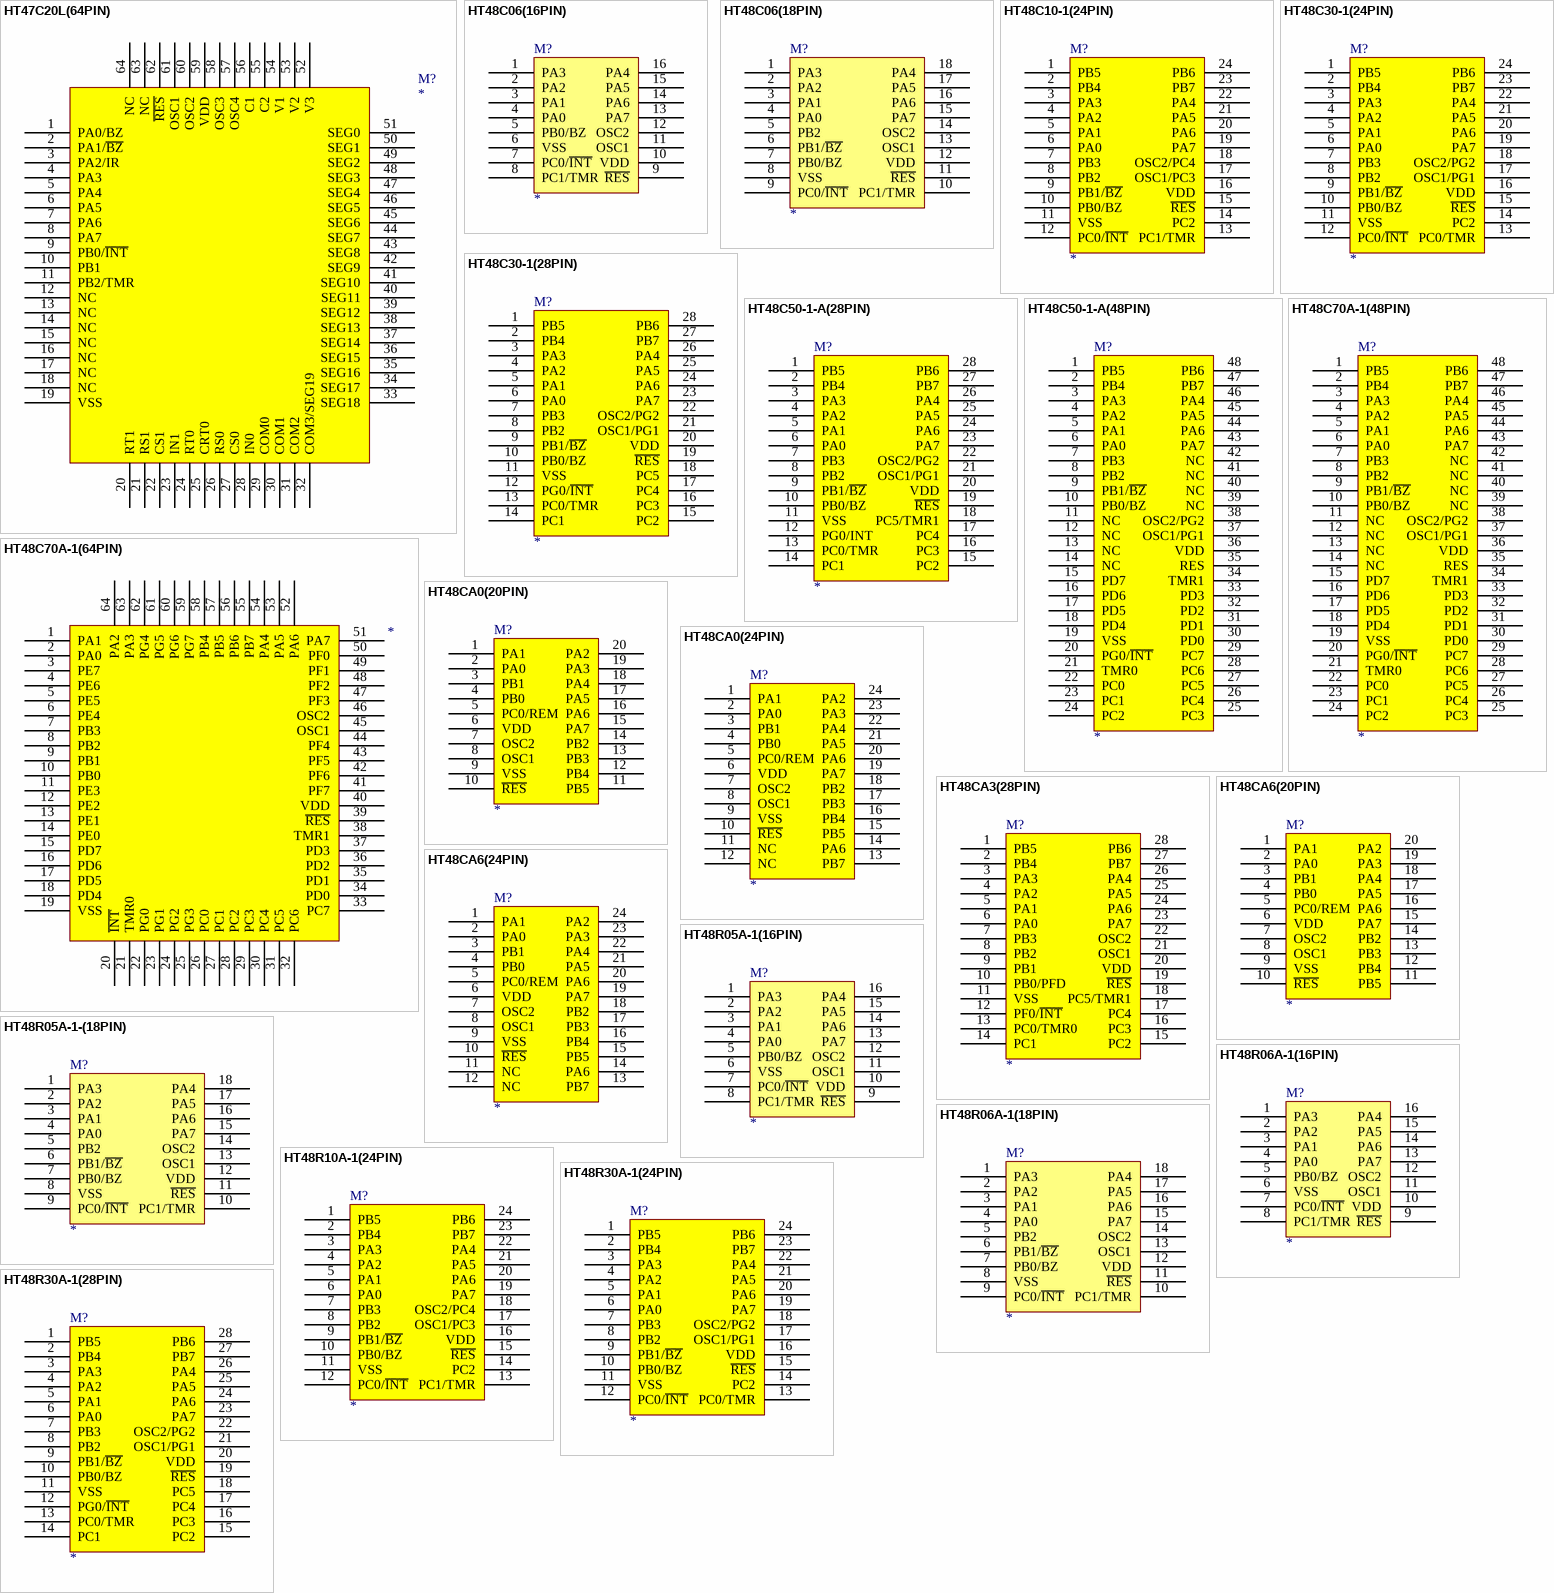
[diagram p2: symbols HT47C20L(64PIN) to HT48R30A-1(28PIN)]

## HT47C20L(64PIN)
designator M?
HT47C20L(64PIN); 1.库作者: 冰凌猫; 2.库版本: v2.0 (2021.03.30); 3.交流分享: Q群514746572,开源更新,欢迎一起交流学习PCB设计; 4.作者声明: 旨为整合最全库集,欢迎转载,禁止商用！-冰凌猫; 5.备注说明: 该库已二次整合过网上各热销库,基本最全,无需重复搜购安装
footprint QFP64
pins: 1 PA0/BZ, 2 PA1/~{BZ}, 3 PA2/IR, 4 PA3, 5 PA4, 6 PA5, 7 PA6, 8 PA7, 9 PB0/~{INT}, 10 PB1, 11 PB2/TMR, 12 NC, 13 NC, 14 NC, 15 NC, 16 NC, 17 NC, 18 NC, 19 VSS, 20 RT1, 21 RS1, 22 CS1, 23 IN1, 24 RT0, 25 CRT0, 26 RS0, 27 CS0, 28 IN0, 29 COM0, 30 COM1, 31 COM2, 32 COM3/SEG19, 33 SEG18, 34 SEG17, 35 SEG16, 36 SEG15, 37 SEG14, 38 SEG13, 39 SEG12, 40 SEG11, 41 SEG10, 42 SEG9, 43 SEG8, 44 SEG7, 45 SEG6, 46 SEG5, 47 SEG4, 48 SEG3, 49 SEG2, 50 SEG1, 51 SEG0, 52 V3, 53 V2, 54 V1, 55 C2, 56 C1, 57 OSC4, 58 OSC3, 59 VDD, 60 OSC2, 61 OSC1, 62 ~{RES}, 63 NC, 64 NC

## HT48C06(16PIN)
designator M?
HT48C06(16PIN); 1.库作者: 冰凌猫; 2.库版本: v2.0 (2021.03.30); 3.交流分享: Q群514746572,开源更新,欢迎一起交流学习PCB设计; 4.作者声明: 旨为整合最全库集,欢迎转载,禁止商用！-冰凌猫; 5.备注说明: 该库已二次整合过网上各热销库,基本最全,无需重复搜购安装
footprint SSOP16
pins: 1 PA3, 2 PA2, 3 PA1, 4 PA0, 5 PB0/BZ, 6 VSS, 7 PC0/~{INT}, 8 PC1/TMR, 9 ~{RES}, 10 VDD, 11 OSC1, 12 OSC2, 13 PA7, 14 PA6, 15 PA5, 16 PA4

## HT48C06(18PIN)
designator M?
HT48C06(18PIN); 1.库作者: 冰凌猫; 2.库版本: v2.0 (2021.03.30); 3.交流分享: Q群514746572,开源更新,欢迎一起交流学习PCB设计; 4.作者声明: 旨为整合最全库集,欢迎转载,禁止商用！-冰凌猫; 5.备注说明: 该库已二次整合过网上各热销库,基本最全,无需重复搜购安装
footprint DIP18
footprint SOP18
pins: 1 PA3, 2 PA2, 3 PA1, 4 PA0, 5 PB2, 6 PB1/~{BZ}, 7 PB0/BZ, 8 VSS, 9 PC0/~{INT}, 10 PC1/TMR, 11 ~{RES}, 12 VDD, 13 OSC1, 14 OSC2, 15 PA7, 16 PA6, 17 PA5, 18 PA4

## HT48C10-1(24PIN)
designator M?
HT48C10-1(24PIN); 1.库作者: 冰凌猫; 2.库版本: v2.0 (2021.03.30); 3.交流分享: Q群514746572,开源更新,欢迎一起交流学习PCB设计; 4.作者声明: 旨为整合最全库集,欢迎转载,禁止商用！-冰凌猫; 5.备注说明: 该库已二次整合过网上各热销库,基本最全,无需重复搜购安装
footprint SKDIP24
footprint SOP24
pins: 1 PB5, 2 PB4, 3 PA3, 4 PA2, 5 PA1, 6 PA0, 7 PB3, 8 PB2, 9 PB1/~{BZ}, 10 PB0/BZ, 11 VSS, 12 PC0/~{INT}, 13 PC1/TMR, 14 PC2, 15 ~{RES}, 16 VDD, 17 OSC1/PC3, 18 OSC2/PC4, 19 PA7, 20 PA6, 21 PA5, 22 PA4, 23 PB7, 24 PB6

## HT48C30-1(24PIN)
designator M?
HT48C30-1(24PIN); 1.库作者: 冰凌猫; 2.库版本: v2.0 (2021.03.30); 3.交流分享: Q群514746572,开源更新,欢迎一起交流学习PCB设计; 4.作者声明: 旨为整合最全库集,欢迎转载,禁止商用！-冰凌猫; 5.备注说明: 该库已二次整合过网上各热销库,基本最全,无需重复搜购安装
footprint SKDIP24
footprint SOP24
pins: 1 PB5, 2 PB4, 3 PA3, 4 PA2, 5 PA1, 6 PA0, 7 PB3, 8 PB2, 9 PB1/~{BZ}, 10 PB0/BZ, 11 VSS, 12 PC0/~{INT}, 13 PC0/TMR, 14 PC2, 15 ~{RES}, 16 VDD, 17 OSC1/PG1, 18 OSC2/PG2, 19 PA7, 20 PA6, 21 PA5, 22 PA4, 23 PB7, 24 PB6

## HT48C30-1(28PIN)
designator M?
HT48C30-1(28PIN); 1.库作者: 冰凌猫; 2.库版本: v2.0 (2021.03.30); 3.交流分享: Q群514746572,开源更新,欢迎一起交流学习PCB设计; 4.作者声明: 旨为整合最全库集,欢迎转载,禁止商用！-冰凌猫; 5.备注说明: 该库已二次整合过网上各热销库,基本最全,无需重复搜购安装
footprint SKDIP28
footprint SOP28
pins: 1 PB5, 2 PB4, 3 PA3, 4 PA2, 5 PA1, 6 PA0, 7 PB3, 8 PB2, 9 PB1/~{BZ}, 10 PB0/BZ, 11 VSS, 12 PG0/~{INT}, 13 PC0/TMR, 14 PC1, 15 PC2, 16 PC3, 17 PC4, 18 PC5, 19 ~{RES}, 20 VDD, 21 OSC1/PG1, 22 OSC2/PG2, 23 PA7, 24 PA6, 25 PA5, 26 PA4, 27 PB7, 28 PB6

## HT48C50-1-A(28PIN)
designator M?
HT48C50-1-A(28PIN); 1.库作者: 冰凌猫; 2.库版本: v2.0 (2021.03.30); 3.交流分享: Q群514746572,开源更新,欢迎一起交流学习PCB设计; 4.作者声明: 旨为整合最全库集,欢迎转载,禁止商用！-冰凌猫; 5.备注说明: 该库已二次整合过网上各热销库,基本最全,无需重复搜购安装
footprint SKDIP28
footprint SOP28
pins: 1 PB5, 2 PB4, 3 PA3, 4 PA2, 5 PA1, 6 PA0, 7 PB3, 8 PB2, 9 PB1/~{BZ}, 10 PB0/BZ, 11 VSS, 12 PG0/INT, 13 PC0/TMR, 14 PC1, 15 PC2, 16 PC3, 17 PC4, 18 PC5/TMR1, 19 ~{RES}, 20 VDD, 21 OSC1/PG1, 22 OSC2/PG2, 23 PA7, 24 PA6, 25 PA5, 26 PA4, 27 PB7, 28 PB6

## HT48C50-1-A(48PIN)
designator M?
HT48C50A-1(48PIN); 1.库作者: 冰凌猫; 2.库版本: v2.0 (2021.03.30); 3.交流分享: Q群514746572,开源更新,欢迎一起交流学习PCB设计; 4.作者声明: 旨为整合最全库集,欢迎转载,禁止商用！-冰凌猫; 5.备注说明: 该库已二次整合过网上各热销库,基本最全,无需重复搜购安装
footprint SSOP48
pins: 1 PB5, 2 PB4, 3 PA3, 4 PA2, 5 PA1, 6 PA0, 7 PB3, 8 PB2, 9 PB1/~{BZ}, 10 PB0/BZ, 11 NC, 12 NC, 13 NC, 14 NC, 15 PD7, 16 PD6, 17 PD5, 18 PD4, 19 VSS, 20 PG0/~{INT}, 21 TMR0, 22 PC0, 23 PC1, 24 PC2, 25 PC3, 26 PC4, 27 PC5, 28 PC6, 29 PC7, 30 PD0, 31 PD1, 32 PD2, 33 PD3, 34 TMR1, 35 RES, 36 VDD, 37 OSC1/PG1, 38 OSC2/PG2, 39 NC, 40 NC, 41 NC, 42 NC, 43 PA7, 44 PA6, 45 PA5, 46 PA4, 47 PB7, 48 PB6

## HT48C70A-1(48PIN)
designator M?
HT48C70A-1(48PIN); 1.库作者: 冰凌猫; 2.库版本: v2.0 (2021.03.30); 3.交流分享: Q群514746572,开源更新,欢迎一起交流学习PCB设计; 4.作者声明: 旨为整合最全库集,欢迎转载,禁止商用！-冰凌猫; 5.备注说明: 该库已二次整合过网上各热销库,基本最全,无需重复搜购安装
footprint SSOP48
pins: 1 PB5, 2 PB4, 3 PA3, 4 PA2, 5 PA1, 6 PA0, 7 PB3, 8 PB2, 9 PB1/~{BZ}, 10 PB0/BZ, 11 NC, 12 NC, 13 NC, 14 NC, 15 PD7, 16 PD6, 17 PD5, 18 PD4, 19 VSS, 20 PG0/~{INT}, 21 TMR0, 22 PC0, 23 PC1, 24 PC2, 25 PC3, 26 PC4, 27 PC5, 28 PC6, 29 PC7, 30 PD0, 31 PD1, 32 PD2, 33 PD3, 34 TMR1, 35 RES, 36 VDD, 37 OSC1/PG1, 38 OSC2/PG2, 39 NC, 40 NC, 41 NC, 42 NC, 43 PA7, 44 PA6, 45 PA5, 46 PA4, 47 PB7, 48 PB6

## HT48C70A-1(64PIN)
designator ?
1.库作者: 冰凌猫; 2.库版本: v2.0 (2021.03.30); 3.交流分享: Q群514746572,开源更新,欢迎一起交流学习PCB设计; 4.作者声明: 旨为整合最全库集,欢迎转载,禁止商用！-冰凌猫; 5.备注说明: 该库已二次整合过网上各热销库,基本最全,无需重复搜购安装
pins: 1 PA1, 2 PA0, 3 PE7, 4 PE6, 5 PE5, 6 PE4, 7 PB3, 8 PB2, 9 PB1, 10 PB0, 11 PE3, 12 PE2, 13 PE1, 14 PE0, 15 PD7, 16 PD6, 17 PD5, 18 PD4, 19 VSS, 20 ~{INT}, 21 TMR0, 22 PG0, 23 PG1, 24 PG2, 25 PG3, 26 PC0, 27 PC1, 28 PC2, 29 PC3, 30 PC4, 31 PC5, 32 PC6, 33 PC7, 34 PD0, 35 PD1, 36 PD2, 37 PD3, 38 TMR1, 39 ~{RES}, 40 VDD, 41 PF7, 42 PF6, 43 PF5, 44 PF4, 45 OSC1, 46 OSC2, 47 PF3, 48 PF2, 49 PF1, 50 PF0, 51 PA7, 52 PA6, 53 PA5, 54 PA4, 55 PB7, 56 PB6, 57 PB5, 58 PB4, 59 PG7, 60 PG6, 61 PG5, 62 PG4, 63 PA3, 64 PA2

## HT48CA0(20PIN)
designator M?
HT48CA0; 1.库作者: 冰凌猫; 2.库版本: v2.0 (2021.03.30); 3.交流分享: Q群514746572,开源更新,欢迎一起交流学习PCB设计; 4.作者声明: 旨为整合最全库集,欢迎转载,禁止商用！-冰凌猫; 5.备注说明: 该库已二次整合过网上各热销库,基本最全,无需重复搜购安装
footprint SOP20
footprint DIP20
pins: 1 PA1, 2 PA0, 3 PB1, 4 PB0, 5 PC0/REM, 6 VDD, 7 OSC2, 8 OSC1, 9 VSS, 10 ~{RES}, 11 PB5, 12 PB4, 13 PB3, 14 PB2, 15 PA7, 16 PA6, 17 PA5, 18 PA4, 19 PA3, 20 PA2

## HT48CA0(24PIN)
designator M?
HT48CA0(24PIN); 1.库作者: 冰凌猫; 2.库版本: v2.0 (2021.03.30); 3.交流分享: Q群514746572,开源更新,欢迎一起交流学习PCB设计; 4.作者声明: 旨为整合最全库集,欢迎转载,禁止商用！-冰凌猫; 5.备注说明: 该库已二次整合过网上各热销库,基本最全,无需重复搜购安装
footprint SOP24
pins: 1 PA1, 2 PA0, 3 PB1, 4 PB0, 5 PC0/REM, 6 VDD, 7 OSC2, 8 OSC1, 9 VSS, 10 ~{RES}, 11 NC, 12 NC, 13 PB7, 14 PA6, 15 PB5, 16 PB4, 17 PB3, 18 PB2, 19 PA7, 20 PA6, 21 PA5, 22 PA4, 23 PA3, 24 PA2

## HT48CA3(28PIN)
designator M?
HT48CA3(28PIN); 1.库作者: 冰凌猫; 2.库版本: v2.0 (2021.03.30); 3.交流分享: Q群514746572,开源更新,欢迎一起交流学习PCB设计; 4.作者声明: 旨为整合最全库集,欢迎转载,禁止商用！-冰凌猫; 5.备注说明: 该库已二次整合过网上各热销库,基本最全,无需重复搜购安装
footprint SKDIP28
footprint SOP28
pins: 1 PB5, 2 PB4, 3 PA3, 4 PA2, 5 PA1, 6 PA0, 7 PB3, 8 PB2, 9 PB1, 10 PB0/PFD, 11 VSS, 12 PF0/~{INT}, 13 PC0/TMR0, 14 PC1, 15 PC2, 16 PC3, 17 PC4, 18 PC5/TMR1, 19 ~{RES}, 20 VDD, 21 OSC1, 22 OSC2, 23 PA7, 24 PA6, 25 PA5, 26 PA4, 27 PB7, 28 PB6

## HT48CA6(20PIN)
designator M?
HT48CA6; 1.库作者: 冰凌猫; 2.库版本: v2.0 (2021.03.30); 3.交流分享: Q群514746572,开源更新,欢迎一起交流学习PCB设计; 4.作者声明: 旨为整合最全库集,欢迎转载,禁止商用！-冰凌猫; 5.备注说明: 该库已二次整合过网上各热销库,基本最全,无需重复搜购安装
footprint SOP20
pins: 1 PA1, 2 PA0, 3 PB1, 4 PB0, 5 PC0/REM, 6 VDD, 7 OSC2, 8 OSC1, 9 VSS, 10 ~{RES}, 11 PB5, 12 PB4, 13 PB3, 14 PB2, 15 PA7, 16 PA6, 17 PA5, 18 PA4, 19 PA3, 20 PA2

## HT48CA6(24PIN)
designator M?
HT48CA6(24PIN); 1.库作者: 冰凌猫; 2.库版本: v2.0 (2021.03.30); 3.交流分享: Q群514746572,开源更新,欢迎一起交流学习PCB设计; 4.作者声明: 旨为整合最全库集,欢迎转载,禁止商用！-冰凌猫; 5.备注说明: 该库已二次整合过网上各热销库,基本最全,无需重复搜购安装
footprint SOP24
pins: 1 PA1, 2 PA0, 3 PB1, 4 PB0, 5 PC0/REM, 6 VDD, 7 OSC2, 8 OSC1, 9 VSS, 10 ~{RES}, 11 NC, 12 NC, 13 PB7, 14 PA6, 15 PB5, 16 PB4, 17 PB3, 18 PB2, 19 PA7, 20 PA6, 21 PA5, 22 PA4, 23 PA3, 24 PA2

## HT48R05A-1(16PIN)
designator M?
HT48R05A-1-16(16PIN); 1.库作者: 冰凌猫; 2.库版本: v2.0 (2021.03.30); 3.交流分享: Q群514746572,开源更新,欢迎一起交流学习PCB设计; 4.作者声明: 旨为整合最全库集,欢迎转载,禁止商用！-冰凌猫; 5.备注说明: 该库已二次整合过网上各热销库,基本最全,无需重复搜购安装
footprint SSOP16
pins: 1 PA3, 2 PA2, 3 PA1, 4 PA0, 5 PB0/BZ, 6 VSS, 7 PC0/~{INT}, 8 PC1/TMR, 9 ~{RES}, 10 VDD, 11 OSC1, 12 OSC2, 13 PA7, 14 PA6, 15 PA5, 16 PA4

## HT48R05A-1-(18PIN)
designator M?
HT48R05A-1-(18PIN); 1.库作者: 冰凌猫; 2.库版本: v2.0 (2021.03.30); 3.交流分享: Q群514746572,开源更新,欢迎一起交流学习PCB设计; 4.作者声明: 旨为整合最全库集,欢迎转载,禁止商用！-冰凌猫; 5.备注说明: 该库已二次整合过网上各热销库,基本最全,无需重复搜购安装
footprint DIP18
footprint SOP-18
pins: 1 PA3, 2 PA2, 3 PA1, 4 PA0, 5 PB2, 6 PB1/~{BZ}, 7 PB0/BZ, 8 VSS, 9 PC0/~{INT}, 10 PC1/TMR, 11 ~{RES}, 12 VDD, 13 OSC1, 14 OSC2, 15 PA7, 16 PA6, 17 PA5, 18 PA4

## HT48R06A-1(16PIN)
designator M?
HT48R06A-1(16PIN); 1.库作者: 冰凌猫; 2.库版本: v2.0 (2021.03.30); 3.交流分享: Q群514746572,开源更新,欢迎一起交流学习PCB设计; 4.作者声明: 旨为整合最全库集,欢迎转载,禁止商用！-冰凌猫; 5.备注说明: 该库已二次整合过网上各热销库,基本最全,无需重复搜购安装
footprint SSOP16
pins: 1 PA3, 2 PA2, 3 PA1, 4 PA0, 5 PB0/BZ, 6 VSS, 7 PC0/~{INT}, 8 PC1/TMR, 9 ~{RES}, 10 VDD, 11 OSC1, 12 OSC2, 13 PA7, 14 PA6, 15 PA5, 16 PA4

## HT48R06A-1(18PIN)
designator M?
HT48R06A-1(18PIN); 1.库作者: 冰凌猫; 2.库版本: v2.0 (2021.03.30); 3.交流分享: Q群514746572,开源更新,欢迎一起交流学习PCB设计; 4.作者声明: 旨为整合最全库集,欢迎转载,禁止商用！-冰凌猫; 5.备注说明: 该库已二次整合过网上各热销库,基本最全,无需重复搜购安装
footprint DIP18
footprint SOP18
pins: 1 PA3, 2 PA2, 3 PA1, 4 PA0, 5 PB2, 6 PB1/~{BZ}, 7 PB0/BZ, 8 VSS, 9 PC0/~{INT}, 10 PC1/TMR, 11 ~{RES}, 12 VDD, 13 OSC1, 14 OSC2, 15 PA7, 16 PA6, 17 PA5, 18 PA4

## HT48R10A-1(24PIN)
designator M?
HT48R10A-1(24PIN); 1.库作者: 冰凌猫; 2.库版本: v2.0 (2021.03.30); 3.交流分享: Q群514746572,开源更新,欢迎一起交流学习PCB设计; 4.作者声明: 旨为整合最全库集,欢迎转载,禁止商用！-冰凌猫; 5.备注说明: 该库已二次整合过网上各热销库,基本最全,无需重复搜购安装
footprint SKDIP24
footprint SOP24
pins: 1 PB5, 2 PB4, 3 PA3, 4 PA2, 5 PA1, 6 PA0, 7 PB3, 8 PB2, 9 PB1/~{BZ}, 10 PB0/BZ, 11 VSS, 12 PC0/~{INT}, 13 PC1/TMR, 14 PC2, 15 ~{RES}, 16 VDD, 17 OSC1/PC3, 18 OSC2/PC4, 19 PA7, 20 PA6, 21 PA5, 22 PA4, 23 PB7, 24 PB6

## HT48R30A-1(24PIN)
designator M?
HT48R30A-1(24PIN); 1.库作者: 冰凌猫; 2.库版本: v2.0 (2021.03.30); 3.交流分享: Q群514746572,开源更新,欢迎一起交流学习PCB设计; 4.作者声明: 旨为整合最全库集,欢迎转载,禁止商用！-冰凌猫; 5.备注说明: 该库已二次整合过网上各热销库,基本最全,无需重复搜购安装
footprint SKDIP24
footprint SOP24
pins: 1 PB5, 2 PB4, 3 PA3, 4 PA2, 5 PA1, 6 PA0, 7 PB3, 8 PB2, 9 PB1/~{BZ}, 10 PB0/BZ, 11 VSS, 12 PC0/~{INT}, 13 PC0/TMR, 14 PC2, 15 ~{RES}, 16 VDD, 17 OSC1/PG1, 18 OSC2/PG2, 19 PA7, 20 PA6, 21 PA5, 22 PA4, 23 PB7, 24 PB6

## HT48R30A-1(28PIN)
designator M?
HT48R30A-1(28PIN); 1.库作者: 冰凌猫; 2.库版本: v2.0 (2021.03.30); 3.交流分享: Q群514746572,开源更新,欢迎一起交流学习PCB设计; 4.作者声明: 旨为整合最全库集,欢迎转载,禁止商用！-冰凌猫; 5.备注说明: 该库已二次整合过网上各热销库,基本最全,无需重复搜购安装
footprint SKDIP28
footprint SOP28
pins: 1 PB5, 2 PB4, 3 PA3, 4 PA2, 5 PA1, 6 PA0, 7 PB3, 8 PB2, 9 PB1/~{BZ}, 10 PB0/BZ, 11 VSS, 12 PG0/~{INT}, 13 PC0/TMR, 14 PC1, 15 PC2, 16 PC3, 17 PC4, 18 PC5, 19 ~{RES}, 20 VDD, 21 OSC1/PG1, 22 OSC2/PG2, 23 PA7, 24 PA6, 25 PA5, 26 PA4, 27 PB7, 28 PB6

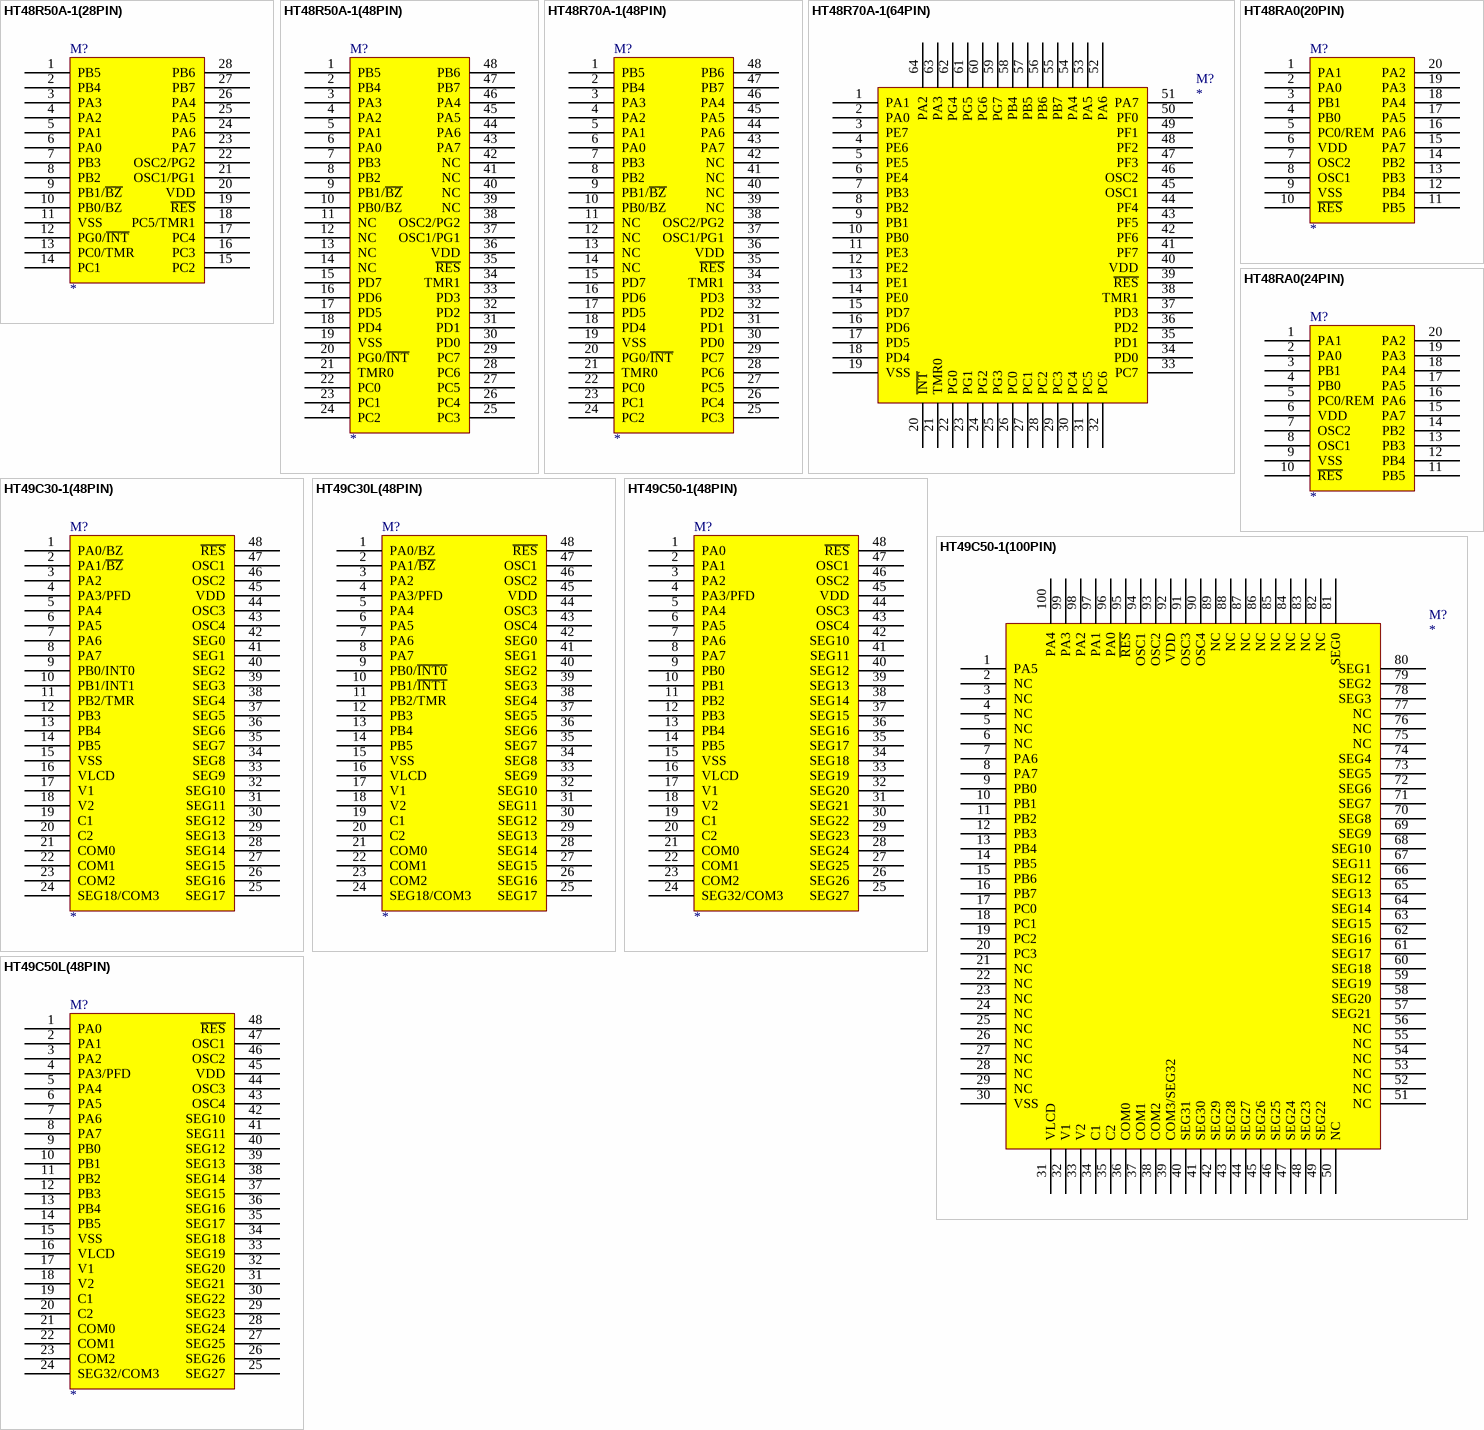
[diagram p3: symbols HT48R50A-1(28PIN) to HT49C50L(48PIN)]

## HT48R50A-1(28PIN)
designator M?
HT48R50A-1(28PIN); 1.库作者: 冰凌猫; 2.库版本: v2.0 (2021.03.30); 3.交流分享: Q群514746572,开源更新,欢迎一起交流学习PCB设计; 4.作者声明: 旨为整合最全库集,欢迎转载,禁止商用！-冰凌猫; 5.备注说明: 该库已二次整合过网上各热销库,基本最全,无需重复搜购安装
footprint SKDIP28
footprint SOP28
pins: 1 PB5, 2 PB4, 3 PA3, 4 PA2, 5 PA1, 6 PA0, 7 PB3, 8 PB2, 9 PB1/~{BZ}, 10 PB0/BZ, 11 VSS, 12 PG0/~{INT}, 13 PC0/TMR, 14 PC1, 15 PC2, 16 PC3, 17 PC4, 18 PC5/TMR1, 19 ~{RES}, 20 VDD, 21 OSC1/PG1, 22 OSC2/PG2, 23 PA7, 24 PA6, 25 PA5, 26 PA4, 27 PB7, 28 PB6

## HT48R50A-1(48PIN)
designator M?
HT48R50A-1(48PIN); 1.库作者: 冰凌猫; 2.库版本: v2.0 (2021.03.30); 3.交流分享: Q群514746572,开源更新,欢迎一起交流学习PCB设计; 4.作者声明: 旨为整合最全库集,欢迎转载,禁止商用！-冰凌猫; 5.备注说明: 该库已二次整合过网上各热销库,基本最全,无需重复搜购安装
footprint SSOP48
pins: 1 PB5, 2 PB4, 3 PA3, 4 PA2, 5 PA1, 6 PA0, 7 PB3, 8 PB2, 9 PB1/~{BZ}, 10 PB0/BZ, 11 NC, 12 NC, 13 NC, 14 NC, 15 PD7, 16 PD6, 17 PD5, 18 PD4, 19 VSS, 20 PG0/~{INT}, 21 TMR0, 22 PC0, 23 PC1, 24 PC2, 25 PC3, 26 PC4, 27 PC5, 28 PC6, 29 PC7, 30 PD0, 31 PD1, 32 PD2, 33 PD3, 34 TMR1, 35 ~{RES}, 36 VDD, 37 OSC1/PG1, 38 OSC2/PG2, 39 NC, 40 NC, 41 NC, 42 NC, 43 PA7, 44 PA6, 45 PA5, 46 PA4, 47 PB7, 48 PB6

## HT48R70A-1(48PIN)
designator M?
HT48R70A-1(48PIN); 1.库作者: 冰凌猫; 2.库版本: v2.0 (2021.03.30); 3.交流分享: Q群514746572,开源更新,欢迎一起交流学习PCB设计; 4.作者声明: 旨为整合最全库集,欢迎转载,禁止商用！-冰凌猫; 5.备注说明: 该库已二次整合过网上各热销库,基本最全,无需重复搜购安装
footprint SSOP48
pins: 1 PB5, 2 PB4, 3 PA3, 4 PA2, 5 PA1, 6 PA0, 7 PB3, 8 PB2, 9 PB1/~{BZ}, 10 PB0/BZ, 11 NC, 12 NC, 13 NC, 14 NC, 15 PD7, 16 PD6, 17 PD5, 18 PD4, 19 VSS, 20 PG0/~{INT}, 21 TMR0, 22 PC0, 23 PC1, 24 PC2, 25 PC3, 26 PC4, 27 PC5, 28 PC6, 29 PC7, 30 PD0, 31 PD1, 32 PD2, 33 PD3, 34 TMR1, 35 ~{RES}, 36 VDD, 37 OSC1/PG1, 38 OSC2/PG2, 39 NC, 40 NC, 41 NC, 42 NC, 43 PA7, 44 PA6, 45 PA5, 46 PA4, 47 PB7, 48 PB6

## HT48R70A-1(64PIN)
designator M?
HT48R70A-1(64PIN); 1.库作者: 冰凌猫; 2.库版本: v2.0 (2021.03.30); 3.交流分享: Q群514746572,开源更新,欢迎一起交流学习PCB设计; 4.作者声明: 旨为整合最全库集,欢迎转载,禁止商用！-冰凌猫; 5.备注说明: 该库已二次整合过网上各热销库,基本最全,无需重复搜购安装
footprint QFP64
pins: 1 PA1, 2 PA0, 3 PE7, 4 PE6, 5 PE5, 6 PE4, 7 PB3, 8 PB2, 9 PB1, 10 PB0, 11 PE3, 12 PE2, 13 PE1, 14 PE0, 15 PD7, 16 PD6, 17 PD5, 18 PD4, 19 VSS, 20 ~{INT}, 21 TMR0, 22 PG0, 23 PG1, 24 PG2, 25 PG3, 26 PC0, 27 PC1, 28 PC2, 29 PC3, 30 PC4, 31 PC5, 32 PC6, 33 PC7, 34 PD0, 35 PD1, 36 PD2, 37 PD3, 38 TMR1, 39 ~{RES}, 40 VDD, 41 PF7, 42 PF6, 43 PF5, 44 PF4, 45 OSC1, 46 OSC2, 47 PF3, 48 PF2, 49 PF1, 50 PF0, 51 PA7, 52 PA6, 53 PA5, 54 PA4, 55 PB7, 56 PB6, 57 PB5, 58 PB4, 59 PG7, 60 PG6, 61 PG5, 62 PG4, 63 PA3, 64 PA2

## HT48RA0(20PIN)
designator M?
HT48RA0(20PIN); 1.库作者: 冰凌猫; 2.库版本: v2.0 (2021.03.30); 3.交流分享: Q群514746572,开源更新,欢迎一起交流学习PCB设计; 4.作者声明: 旨为整合最全库集,欢迎转载,禁止商用！-冰凌猫; 5.备注说明: 该库已二次整合过网上各热销库,基本最全,无需重复搜购安装
footprint SOP20
pins: 1 PA1, 2 PA0, 3 PB1, 4 PB0, 5 PC0/REM, 6 VDD, 7 OSC2, 8 OSC1, 9 VSS, 10 ~{RES}, 11 PB5, 12 PB4, 13 PB3, 14 PB2, 15 PA7, 16 PA6, 17 PA5, 18 PA4, 19 PA3, 20 PA2

## HT48RA0(24PIN)
designator M?
HT48RA0(24PIN); 1.库作者: 冰凌猫; 2.库版本: v2.0 (2021.03.30); 3.交流分享: Q群514746572,开源更新,欢迎一起交流学习PCB设计; 4.作者声明: 旨为整合最全库集,欢迎转载,禁止商用！-冰凌猫; 5.备注说明: 该库已二次整合过网上各热销库,基本最全,无需重复搜购安装
footprint SOP24
pins: 1 PA1, 2 PA0, 3 PB1, 4 PB0, 5 PC0/REM, 6 VDD, 7 OSC2, 8 OSC1, 9 VSS, 10 ~{RES}, 11 PB5, 12 PB4, 13 PB3, 14 PB2, 15 PA7, 16 PA6, 17 PA5, 18 PA4, 19 PA3, 20 PA2

## HT49C30-1(48PIN)
designator M?
HT49C30-1(48PIN); 1.库作者: 冰凌猫; 2.库版本: v2.0 (2021.03.30); 3.交流分享: Q群514746572,开源更新,欢迎一起交流学习PCB设计; 4.作者声明: 旨为整合最全库集,欢迎转载,禁止商用！-冰凌猫; 5.备注说明: 该库已二次整合过网上各热销库,基本最全,无需重复搜购安装
footprint SSOP48
pins: 1 PA0/BZ, 2 PA1/~{BZ}, 3 PA2, 4 PA3/PFD, 5 PA4, 6 PA5, 7 PA6, 8 PA7, 9 PB0/INT0, 10 PB1/INT1, 11 PB2/TMR, 12 PB3, 13 PB4, 14 PB5, 15 VSS, 16 VLCD, 17 V1, 18 V2, 19 C1, 20 C2, 21 COM0, 22 COM1, 23 COM2, 24 SEG18/COM3, 25 SEG17, 26 SEG16, 27 SEG15, 28 SEG14, 29 SEG13, 30 SEG12, 31 SEG11, 32 SEG10, 33 SEG9, 34 SEG8, 35 SEG7, 36 SEG6, 37 SEG5, 38 SEG4, 39 SEG3, 40 SEG2, 41 SEG1, 42 SEG0, 43 OSC4, 44 OSC3, 45 VDD, 46 OSC2, 47 OSC1, 48 ~{RES}

## HT49C30L(48PIN)
designator M?
HT49C30L(48PIN); 1.库作者: 冰凌猫; 2.库版本: v2.0 (2021.03.30); 3.交流分享: Q群514746572,开源更新,欢迎一起交流学习PCB设计; 4.作者声明: 旨为整合最全库集,欢迎转载,禁止商用！-冰凌猫; 5.备注说明: 该库已二次整合过网上各热销库,基本最全,无需重复搜购安装
footprint SSOP48
pins: 1 PA0/BZ, 2 PA1/~{BZ}, 3 PA2, 4 PA3/PFD, 5 PA4, 6 PA5, 7 PA6, 8 PA7, 9 PB0/~{INT0}, 10 PB1/~{INT1}, 11 PB2/TMR, 12 PB3, 13 PB4, 14 PB5, 15 VSS, 16 VLCD, 17 V1, 18 V2, 19 C1, 20 C2, 21 COM0, 22 COM1, 23 COM2, 24 SEG18/COM3, 25 SEG17, 26 SEG16, 27 SEG15, 28 SEG14, 29 SEG13, 30 SEG12, 31 SEG11, 32 SEG10, 33 SEG9, 34 SEG8, 35 SEG7, 36 SEG6, 37 SEG5, 38 SEG4, 39 SEG3, 40 SEG2, 41 SEG1, 42 SEG0, 43 OSC4, 44 OSC3, 45 VDD, 46 OSC2, 47 OSC1, 48 ~{RES}

## HT49C50-1(48PIN)
designator M?
HT49C50-1(48PIN); 1.库作者: 冰凌猫; 2.库版本: v2.0 (2021.03.30); 3.交流分享: Q群514746572,开源更新,欢迎一起交流学习PCB设计; 4.作者声明: 旨为整合最全库集,欢迎转载,禁止商用！-冰凌猫; 5.备注说明: 该库已二次整合过网上各热销库,基本最全,无需重复搜购安装
footprint SSOP48
pins: 1 PA0, 2 PA1, 3 PA2, 4 PA3/PFD, 5 PA4, 6 PA5, 7 PA6, 8 PA7, 9 PB0, 10 PB1, 11 PB2, 12 PB3, 13 PB4, 14 PB5, 15 VSS, 16 VLCD, 17 V1, 18 V2, 19 C1, 20 C2, 21 COM0, 22 COM1, 23 COM2, 24 SEG32/COM3, 25 SEG27, 26 SEG26, 27 SEG25, 28 SEG24, 29 SEG23, 30 SEG22, 31 SEG21, 32 SEG20, 33 SEG19, 34 SEG18, 35 SEG17, 36 SEG16, 37 SEG15, 38 SEG14, 39 SEG13, 40 SEG12, 41 SEG11, 42 SEG10, 43 OSC4, 44 OSC3, 45 VDD, 46 OSC2, 47 OSC1, 48 ~{RES}

## HT49C50-1(100PIN)
designator M?
HT49C50-1(100QFP); 1.库作者: 冰凌猫; 2.库版本: v2.0 (2021.03.30); 3.交流分享: Q群514746572,开源更新,欢迎一起交流学习PCB设计; 4.作者声明: 旨为整合最全库集,欢迎转载,禁止商用！-冰凌猫; 5.备注说明: 该库已二次整合过网上各热销库,基本最全,无需重复搜购安装
footprint QFP100
pins: 1 PA5, 2 NC, 3 NC, 4 NC, 5 NC, 6 NC, 7 PA6, 8 PA7, 9 PB0, 10 PB1, 11 PB2, 12 PB3, 13 PB4, 14 PB5, 15 PB6, 16 PB7, 17 PC0, 18 PC1, 19 PC2, 20 PC3, 21 NC, 22 NC, 23 NC, 24 NC, 25 NC, 26 NC, 27 NC, 28 NC, 29 NC, 30 VSS, 31 VLCD, 32 V1, 33 V2, 34 C1, 35 C2, 36 COM0, 37 COM1, 38 COM2, 39 COM3/SEG32, 40 SEG31, 41 SEG30, 42 SEG29, 43 SEG28, 44 SEG27, 45 SEG26, 46 SEG25, 47 SEG24, 48 SEG23, 49 SEG22, 50 NC, 51 NC, 52 NC, 53 NC, 54 NC, 55 NC, 56 NC, 57 SEG21, 58 SEG20, 59 SEG19, 60 SEG18, 61 SEG17, 62 SEG16, 63 SEG15, 64 SEG14, 65 SEG13, 66 SEG12, 67 SEG11, 68 SEG10, 69 SEG9, 70 SEG8, 71 SEG7, 72 SEG6, 73 SEG5, 74 SEG4, 75 NC, 76 NC, 77 NC, 78 SEG3, 79 SEG2, 80 SEG1, 81 SEG0, 82 NC, 83 NC, 84 NC, 85 NC, 86 NC, 87 NC, 88 NC, 89 NC, 90 OSC4, 91 OSC3, 92 VDD, 93 OSC2, 94 OSC1, 95 ~{RES}, 96 PA0, 97 PA1, 98 PA2, 99 PA3, 100 PA4

## HT49C50L(48PIN)
designator M?
HT49C50L(48PIN); 1.库作者: 冰凌猫; 2.库版本: v2.0 (2021.03.30); 3.交流分享: Q群514746572,开源更新,欢迎一起交流学习PCB设计; 4.作者声明: 旨为整合最全库集,欢迎转载,禁止商用！-冰凌猫; 5.备注说明: 该库已二次整合过网上各热销库,基本最全,无需重复搜购安装
footprint SSOP48
pins: 1 PA0, 2 PA1, 3 PA2, 4 PA3/PFD, 5 PA4, 6 PA5, 7 PA6, 8 PA7, 9 PB0, 10 PB1, 11 PB2, 12 PB3, 13 PB4, 14 PB5, 15 VSS, 16 VLCD, 17 V1, 18 V2, 19 C1, 20 C2, 21 COM0, 22 COM1, 23 COM2, 24 SEG32/COM3, 25 SEG27, 26 SEG26, 27 SEG25, 28 SEG24, 29 SEG23, 30 SEG22, 31 SEG21, 32 SEG20, 33 SEG19, 34 SEG18, 35 SEG17, 36 SEG16, 37 SEG15, 38 SEG14, 39 SEG13, 40 SEG12, 41 SEG11, 42 SEG10, 43 OSC4, 44 OSC3, 45 VDD, 46 OSC2, 47 OSC1, 48 ~{RES}

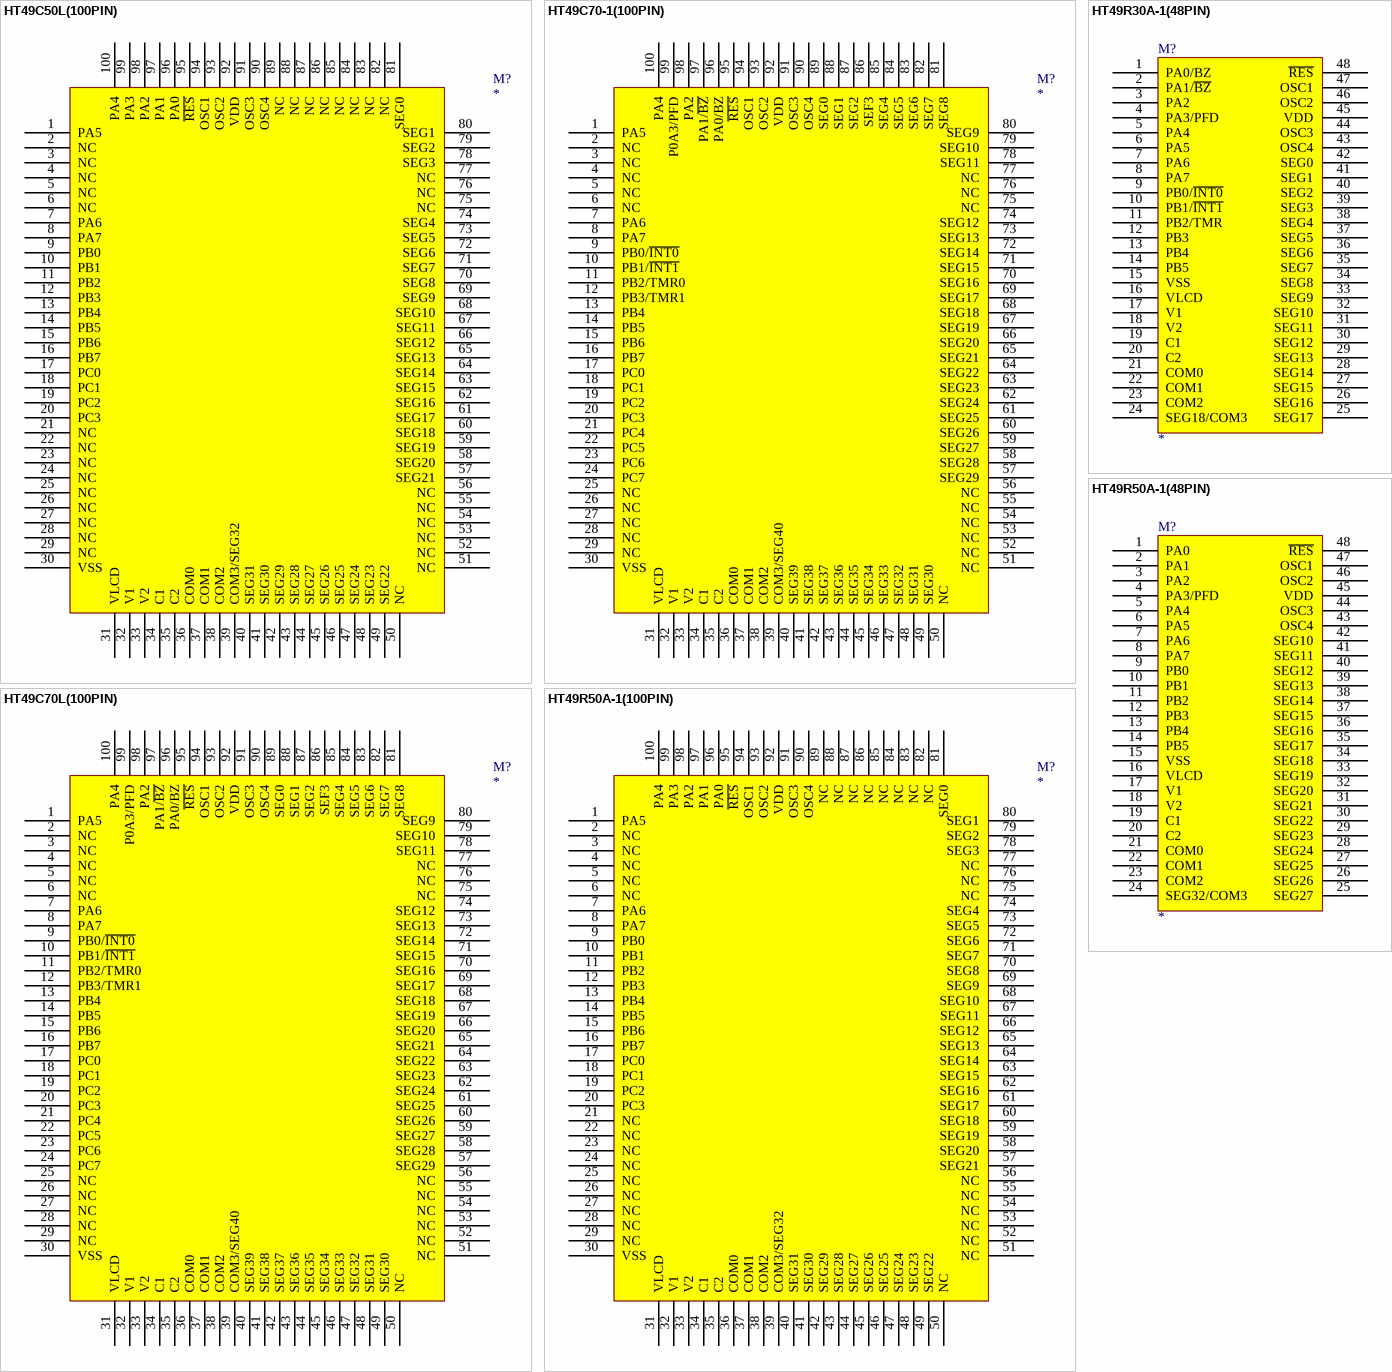
[diagram p4: symbols HT49C50L(100PIN) to HT49R50A-1(100PIN)]

## HT49C50L(100PIN)
designator M?
HT49C50L(100PIN); 1.库作者: 冰凌猫; 2.库版本: v2.0 (2021.03.30); 3.交流分享: Q群514746572,开源更新,欢迎一起交流学习PCB设计; 4.作者声明: 旨为整合最全库集,欢迎转载,禁止商用！-冰凌猫; 5.备注说明: 该库已二次整合过网上各热销库,基本最全,无需重复搜购安装
footprint QFP100
pins: 1 PA5, 2 NC, 3 NC, 4 NC, 5 NC, 6 NC, 7 PA6, 8 PA7, 9 PB0, 10 PB1, 11 PB2, 12 PB3, 13 PB4, 14 PB5, 15 PB6, 16 PB7, 17 PC0, 18 PC1, 19 PC2, 20 PC3, 21 NC, 22 NC, 23 NC, 24 NC, 25 NC, 26 NC, 27 NC, 28 NC, 29 NC, 30 VSS, 31 VLCD, 32 V1, 33 V2, 34 C1, 35 C2, 36 COM0, 37 COM1, 38 COM2, 39 COM3/SEG32, 40 SEG31, 41 SEG30, 42 SEG29, 43 SEG28, 44 SEG27, 45 SEG26, 46 SEG25, 47 SEG24, 48 SEG23, 49 SEG22, 50 NC, 51 NC, 52 NC, 53 NC, 54 NC, 55 NC, 56 NC, 57 SEG21, 58 SEG20, 59 SEG19, 60 SEG18, 61 SEG17, 62 SEG16, 63 SEG15, 64 SEG14, 65 SEG13, 66 SEG12, 67 SEG11, 68 SEG10, 69 SEG9, 70 SEG8, 71 SEG7, 72 SEG6, 73 SEG5, 74 SEG4, 75 NC, 76 NC, 77 NC, 78 SEG3, 79 SEG2, 80 SEG1, 81 SEG0, 82 NC, 83 NC, 84 NC, 85 NC, 86 NC, 87 NC, 88 NC, 89 NC, 90 OSC4, 91 OSC3, 92 VDD, 93 OSC2, 94 OSC1, 95 ~{RES}, 96 PA0, 97 PA1, 98 PA2, 99 PA3, 100 PA4

## HT49C70-1(100PIN)
designator M?
HT49C70-1(100PIN); 1.库作者: 冰凌猫; 2.库版本: v2.0 (2021.03.30); 3.交流分享: Q群514746572,开源更新,欢迎一起交流学习PCB设计; 4.作者声明: 旨为整合最全库集,欢迎转载,禁止商用！-冰凌猫; 5.备注说明: 该库已二次整合过网上各热销库,基本最全,无需重复搜购安装
footprint QFP100
pins: 1 PA5, 2 NC, 3 NC, 4 NC, 5 NC, 6 NC, 7 PA6, 8 PA7, 9 PB0/~{INT0}, 10 PB1/~{INT1}, 11 PB2/TMR0, 12 PB3/TMR1, 13 PB4, 14 PB5, 15 PB6, 16 PB7, 17 PC0, 18 PC1, 19 PC2, 20 PC3, 21 PC4, 22 PC5, 23 PC6, 24 PC7, 25 NC, 26 NC, 27 NC, 28 NC, 29 NC, 30 VSS, 31 VLCD, 32 V1, 33 V2, 34 C1, 35 C2, 36 COM0, 37 COM1, 38 COM2, 39 COM3/SEG40, 40 SEG39, 41 SEG38, 42 SEG37, 43 SEG36, 44 SEG35, 45 SEG34, 46 SEG33, 47 SEG32, 48 SEG31, 49 SEG30, 50 NC, 51 NC, 52 NC, 53 NC, 54 NC, 55 NC, 56 NC, 57 SEG29, 58 SEG28, 59 SEG27, 60 SEG26, 61 SEG25, 62 SEG24, 63 SEG23, 64 SEG22, 65 SEG21, 66 SEG20, 67 SEG19, 68 SEG18, 69 SEG17, 70 SEG16, 71 SEG15, 72 SEG14, 73 SEG13, 74 SEG12, 75 NC, 76 NC, 77 NC, 78 SEG11, 79 SEG10, 80 SEG9, 81 SEG8, 82 SEG7, 83 SEG6, 84 SEG5, 85 SEG4, 86 SEF3, 87 SEG2, 88 SEG1, 89 SEG0, 90 OSC4, 91 OSC3, 92 VDD, 93 OSC2, 94 OSC1, 95 ~{RES}, 96 PA0/BZ, 97 PA1/~{BZ}, 98 PA2, 99 P0A3/PFD, 100 PA4

## HT49C70L(100PIN)
designator M?
HT49C70L(100PIN); 1.库作者: 冰凌猫; 2.库版本: v2.0 (2021.03.30); 3.交流分享: Q群514746572,开源更新,欢迎一起交流学习PCB设计; 4.作者声明: 旨为整合最全库集,欢迎转载,禁止商用！-冰凌猫; 5.备注说明: 该库已二次整合过网上各热销库,基本最全,无需重复搜购安装
footprint QFP100
pins: 1 PA5, 2 NC, 3 NC, 4 NC, 5 NC, 6 NC, 7 PA6, 8 PA7, 9 PB0/~{INT0}, 10 PB1/~{INT1}, 11 PB2/TMR0, 12 PB3/TMR1, 13 PB4, 14 PB5, 15 PB6, 16 PB7, 17 PC0, 18 PC1, 19 PC2, 20 PC3, 21 PC4, 22 PC5, 23 PC6, 24 PC7, 25 NC, 26 NC, 27 NC, 28 NC, 29 NC, 30 VSS, 31 VLCD, 32 V1, 33 V2, 34 C1, 35 C2, 36 COM0, 37 COM1, 38 COM2, 39 COM3/SEG40, 40 SEG39, 41 SEG38, 42 SEG37, 43 SEG36, 44 SEG35, 45 SEG34, 46 SEG33, 47 SEG32, 48 SEG31, 49 SEG30, 50 NC, 51 NC, 52 NC, 53 NC, 54 NC, 55 NC, 56 NC, 57 SEG29, 58 SEG28, 59 SEG27, 60 SEG26, 61 SEG25, 62 SEG24, 63 SEG23, 64 SEG22, 65 SEG21, 66 SEG20, 67 SEG19, 68 SEG18, 69 SEG17, 70 SEG16, 71 SEG15, 72 SEG14, 73 SEG13, 74 SEG12, 75 NC, 76 NC, 77 NC, 78 SEG11, 79 SEG10, 80 SEG9, 81 SEG8, 82 SEG7, 83 SEG6, 84 SEG5, 85 SEG4, 86 SEF3, 87 SEG2, 88 SEG1, 89 SEG0, 90 OSC4, 91 OSC3, 92 VDD, 93 OSC2, 94 OSC1, 95 ~{RES}, 96 PA0/BZ, 97 PA1/~{BZ}, 98 PA2, 99 P0A3/PFD, 100 PA4

## HT49R30A-1(48PIN)
designator M?
HT49R30A-1(48PIN); 1.库作者: 冰凌猫; 2.库版本: v2.0 (2021.03.30); 3.交流分享: Q群514746572,开源更新,欢迎一起交流学习PCB设计; 4.作者声明: 旨为整合最全库集,欢迎转载,禁止商用！-冰凌猫; 5.备注说明: 该库已二次整合过网上各热销库,基本最全,无需重复搜购安装
footprint SSOP48
pins: 1 PA0/BZ, 2 PA1/~{BZ}, 3 PA2, 4 PA3/PFD, 5 PA4, 6 PA5, 7 PA6, 8 PA7, 9 PB0/~{INT0}, 10 PB1/~{INT1}, 11 PB2/TMR, 12 PB3, 13 PB4, 14 PB5, 15 VSS, 16 VLCD, 17 V1, 18 V2, 19 C1, 20 C2, 21 COM0, 22 COM1, 23 COM2, 24 SEG18/COM3, 25 SEG17, 26 SEG16, 27 SEG15, 28 SEG14, 29 SEG13, 30 SEG12, 31 SEG11, 32 SEG10, 33 SEG9, 34 SEG8, 35 SEG7, 36 SEG6, 37 SEG5, 38 SEG4, 39 SEG3, 40 SEG2, 41 SEG1, 42 SEG0, 43 OSC4, 44 OSC3, 45 VDD, 46 OSC2, 47 OSC1, 48 ~{RES}

## HT49R50A-1(48PIN)
designator M?
HT49R50A-1(48PIN); 1.库作者: 冰凌猫; 2.库版本: v2.0 (2021.03.30); 3.交流分享: Q群514746572,开源更新,欢迎一起交流学习PCB设计; 4.作者声明: 旨为整合最全库集,欢迎转载,禁止商用！-冰凌猫; 5.备注说明: 该库已二次整合过网上各热销库,基本最全,无需重复搜购安装
footprint SSOP48
pins: 1 PA0, 2 PA1, 3 PA2, 4 PA3/PFD, 5 PA4, 6 PA5, 7 PA6, 8 PA7, 9 PB0, 10 PB1, 11 PB2, 12 PB3, 13 PB4, 14 PB5, 15 VSS, 16 VLCD, 17 V1, 18 V2, 19 C1, 20 C2, 21 COM0, 22 COM1, 23 COM2, 24 SEG32/COM3, 25 SEG27, 26 SEG26, 27 SEG25, 28 SEG24, 29 SEG23, 30 SEG22, 31 SEG21, 32 SEG20, 33 SEG19, 34 SEG18, 35 SEG17, 36 SEG16, 37 SEG15, 38 SEG14, 39 SEG13, 40 SEG12, 41 SEG11, 42 SEG10, 43 OSC4, 44 OSC3, 45 VDD, 46 OSC2, 47 OSC1, 48 ~{RES}

## HT49R50A-1(100PIN)
designator M?
HT49R50A-1(100PIN); 1.库作者: 冰凌猫; 2.库版本: v2.0 (2021.03.30); 3.交流分享: Q群514746572,开源更新,欢迎一起交流学习PCB设计; 4.作者声明: 旨为整合最全库集,欢迎转载,禁止商用！-冰凌猫; 5.备注说明: 该库已二次整合过网上各热销库,基本最全,无需重复搜购安装
footprint QFP100
pins: 1 PA5, 2 NC, 3 NC, 4 NC, 5 NC, 6 NC, 7 PA6, 8 PA7, 9 PB0, 10 PB1, 11 PB2, 12 PB3, 13 PB4, 14 PB5, 15 PB6, 16 PB7, 17 PC0, 18 PC1, 19 PC2, 20 PC3, 21 NC, 22 NC, 23 NC, 24 NC, 25 NC, 26 NC, 27 NC, 28 NC, 29 NC, 30 VSS, 31 VLCD, 32 V1, 33 V2, 34 C1, 35 C2, 36 COM0, 37 COM1, 38 COM2, 39 COM3/SEG32, 40 SEG31, 41 SEG30, 42 SEG29, 43 SEG28, 44 SEG27, 45 SEG26, 46 SEG25, 47 SEG24, 48 SEG23, 49 SEG22, 50 NC, 51 NC, 52 NC, 53 NC, 54 NC, 55 NC, 56 NC, 57 SEG21, 58 SEG20, 59 SEG19, 60 SEG18, 61 SEG17, 62 SEG16, 63 SEG15, 64 SEG14, 65 SEG13, 66 SEG12, 67 SEG11, 68 SEG10, 69 SEG9, 70 SEG8, 71 SEG7, 72 SEG6, 73 SEG5, 74 SEG4, 75 NC, 76 NC, 77 NC, 78 SEG3, 79 SEG2, 80 SEG1, 81 SEG0, 82 NC, 83 NC, 84 NC, 85 NC, 86 NC, 87 NC, 88 NC, 89 NC, 90 OSC4, 91 OSC3, 92 VDD, 93 OSC2, 94 OSC1, 95 ~{RES}, 96 PA0, 97 PA1, 98 PA2, 99 PA3, 100 PA4

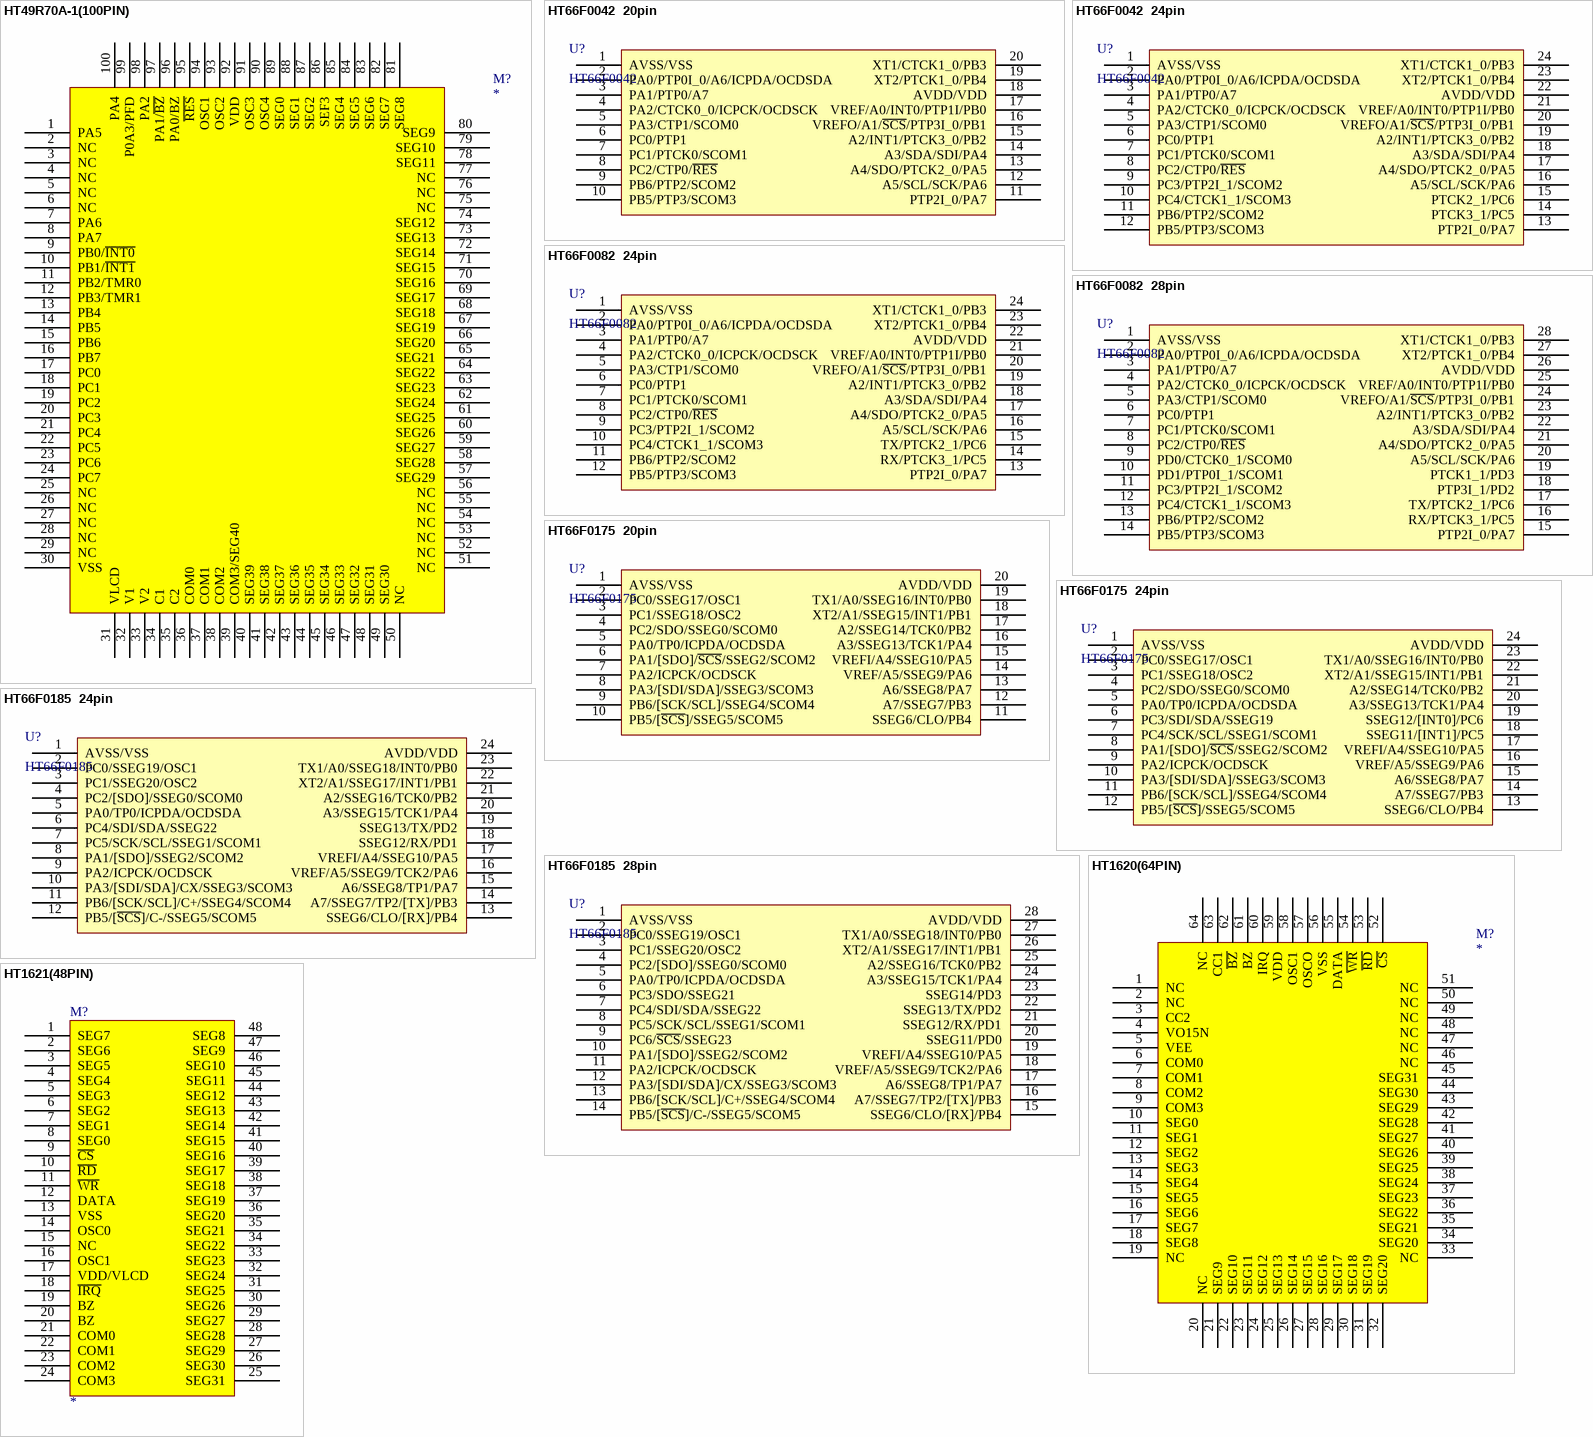
[diagram p5: symbols HT49R70A-1(100PIN) to HT1621(48PIN)]

## HT49R70A-1(100PIN)
designator M?
HT49R70A-1(100QFP); 1.库作者: 冰凌猫; 2.库版本: v2.0 (2021.03.30); 3.交流分享: Q群514746572,开源更新,欢迎一起交流学习PCB设计; 4.作者声明: 旨为整合最全库集,欢迎转载,禁止商用！-冰凌猫; 5.备注说明: 该库已二次整合过网上各热销库,基本最全,无需重复搜购安装
footprint QFP100
pins: 1 PA5, 2 NC, 3 NC, 4 NC, 5 NC, 6 NC, 7 PA6, 8 PA7, 9 PB0/~{INT0}, 10 PB1/~{INT1}, 11 PB2/TMR0, 12 PB3/TMR1, 13 PB4, 14 PB5, 15 PB6, 16 PB7, 17 PC0, 18 PC1, 19 PC2, 20 PC3, 21 PC4, 22 PC5, 23 PC6, 24 PC7, 25 NC, 26 NC, 27 NC, 28 NC, 29 NC, 30 VSS, 31 VLCD, 32 V1, 33 V2, 34 C1, 35 C2, 36 COM0, 37 COM1, 38 COM2, 39 COM3/SEG40, 40 SEG39, 41 SEG38, 42 SEG37, 43 SEG36, 44 SEG35, 45 SEG34, 46 SEG33, 47 SEG32, 48 SEG31, 49 SEG30, 50 NC, 51 NC, 52 NC, 53 NC, 54 NC, 55 NC, 56 NC, 57 SEG29, 58 SEG28, 59 SEG27, 60 SEG26, 61 SEG25, 62 SEG24, 63 SEG23, 64 SEG22, 65 SEG21, 66 SEG20, 67 SEG19, 68 SEG18, 69 SEG17, 70 SEG16, 71 SEG15, 72 SEG14, 73 SEG13, 74 SEG12, 75 NC, 76 NC, 77 NC, 78 SEG11, 79 SEG10, 80 SEG9, 81 SEG8, 82 SEG7, 83 SEG6, 84 SEG5, 85 SEG4, 86 SEF3, 87 SEG2, 88 SEG1, 89 SEG0, 90 OSC4, 91 OSC3, 92 VDD, 93 OSC2, 94 OSC1, 95 ~{RES}, 96 PA0/BZ, 97 PA1/~{BZ}, 98 PA2, 99 P0A3/PFD, 100 PA4

## HT66F0042  20pin
designator U?, comment HT66F0042
AD型; 1.库作者: 冰凌猫; 2.库版本: v2.0 (2021.03.30); 3.交流分享: Q群514746572,开源更新,欢迎一起交流学习PCB设计; 4.作者声明: 旨为整合最全库集,欢迎转载,禁止商用！-冰凌猫; 5.备注说明: 该库已二次整合过网上各热销库,基本最全,无需重复搜购安装; 0.0_BOM名称: AD型
footprint SOP20_L (13*10.6*2.6（长宽高）)
footprint SOP20_N (13*10.6*2.6（长宽高）)
footprint SOP20_M (13*10.6*2.6（长宽高）)
pins: 1 AVSS/VSS, 2 PA0/PTP0I_0/A6/ICPDA/OCDSDA, 3 PA1/PTP0/A7, 4 PA2/CTCK0_0/ICPCK/OCDSCK, 5 PA3/CTP1/SCOM0, 6 PC0/PTP1, 7 PC1/PTCK0/SCOM1, 8 PC2/CTP0/~{RES}, 9 PB6/PTP2/SCOM2, 10 PB5/PTP3/SCOM3, 11 PTP2I_0/PA7, 12 A5/SCL/SCK/PA6, 13 A4/SDO/PTCK2_0/PA5, 14 A3/SDA/SDI/PA4, 15 A2/INT1/PTCK3_0/PB2, 16 VREFO/A1/~{SCS}/PTP3I_0/PB1, 17 VREF/A0/INT0/PTP1I/PB0, 18 AVDD/VDD, 19 XT2/PTCK1_0/PB4, 20 XT1/CTCK1_0/PB3

## HT66F0042  24pin
designator U?, comment HT66F0042
AD型; 1.库作者: 冰凌猫; 2.库版本: v2.0 (2021.03.30); 3.交流分享: Q群514746572,开源更新,欢迎一起交流学习PCB设计; 4.作者声明: 旨为整合最全库集,欢迎转载,禁止商用！-冰凌猫; 5.备注说明: 该库已二次整合过网上各热销库,基本最全,无需重复搜购安装; 0.0_BOM名称: AD型
footprint SOP24_L (15.4*10.6*2.6mm（长宽高）)
footprint SOP24_N (15.4*10.6*2.6mm（长宽高）)
footprint SOP24_M (15.4*10.6*2.6mm（长宽高）)
pins: 1 AVSS/VSS, 2 PA0/PTP0I_0/A6/ICPDA/OCDSDA, 3 PA1/PTP0/A7, 4 PA2/CTCK0_0/ICPCK/OCDSCK, 5 PA3/CTP1/SCOM0, 6 PC0/PTP1, 7 PC1/PTCK0/SCOM1, 8 PC2/CTP0/~{RES}, 9 PC3/PTP2I_1/SCOM2, 10 PC4/CTCK1_1/SCOM3, 11 PB6/PTP2/SCOM2, 12 PB5/PTP3/SCOM3, 13 PTP2I_0/PA7, 14 PTCK3_1/PC5, 15 PTCK2_1/PC6, 16 A5/SCL/SCK/PA6, 17 A4/SDO/PTCK2_0/PA5, 18 A3/SDA/SDI/PA4, 19 A2/INT1/PTCK3_0/PB2, 20 VREFO/A1/~{SCS}/PTP3I_0/PB1, 21 VREF/A0/INT0/PTP1I/PB0, 22 AVDD/VDD, 23 XT2/PTCK1_0/PB4, 24 XT1/CTCK1_0/PB3

## HT66F0082  24pin
designator U?, comment HT66F0082
AD型; 1.库作者: 冰凌猫; 2.库版本: v2.0 (2021.03.30); 3.交流分享: Q群514746572,开源更新,欢迎一起交流学习PCB设计; 4.作者声明: 旨为整合最全库集,欢迎转载,禁止商用！-冰凌猫; 5.备注说明: 该库已二次整合过网上各热销库,基本最全,无需重复搜购安装; 0.0_BOM名称: AD型
footprint SOP24_L (15.4*10.6*2.6mm（长宽高）)
footprint SOP24_N (15.4*10.6*2.6mm（长宽高）)
footprint SOP24_M (15.4*10.6*2.6mm（长宽高）)
pins: 1 AVSS/VSS, 2 PA0/PTP0I_0/A6/ICPDA/OCDSDA, 3 PA1/PTP0/A7, 4 PA2/CTCK0_0/ICPCK/OCDSCK, 5 PA3/CTP1/SCOM0, 6 PC0/PTP1, 7 PC1/PTCK0/SCOM1, 8 PC2/CTP0/~{RES}, 9 PC3/PTP2I_1/SCOM2, 10 PC4/CTCK1_1/SCOM3, 11 PB6/PTP2/SCOM2, 12 PB5/PTP3/SCOM3, 13 PTP2I_0/PA7, 14 RX/PTCK3_1/PC5, 15 TX/PTCK2_1/PC6, 16 A5/SCL/SCK/PA6, 17 A4/SDO/PTCK2_0/PA5, 18 A3/SDA/SDI/PA4, 19 A2/INT1/PTCK3_0/PB2, 20 VREFO/A1/~{SCS}/PTP3I_0/PB1, 21 VREF/A0/INT0/PTP1I/PB0, 22 AVDD/VDD, 23 XT2/PTCK1_0/PB4, 24 XT1/CTCK1_0/PB3

## HT66F0082  28pin
designator U?, comment HT66F0082
AD型; 1.库作者: 冰凌猫; 2.库版本: v2.0 (2021.03.30); 3.交流分享: Q群514746572,开源更新,欢迎一起交流学习PCB设计; 4.作者声明: 旨为整合最全库集,欢迎转载,禁止商用！-冰凌猫; 5.备注说明: 该库已二次整合过网上各热销库,基本最全,无需重复搜购安装; 0.0_BOM名称: AD型
footprint SOP28_L (17.9*10.6*2.6mm（长宽高）)
footprint SOP28_N (17.9*10.6*2.6mm（长宽高）)
footprint SOP28_M (17.9*10.6*2.6mm（长宽高）)
pins: 1 AVSS/VSS, 2 PA0/PTP0I_0/A6/ICPDA/OCDSDA, 3 PA1/PTP0/A7, 4 PA2/CTCK0_0/ICPCK/OCDSCK, 5 PA3/CTP1/SCOM0, 6 PC0/PTP1, 7 PC1/PTCK0/SCOM1, 8 PC2/CTP0/~{RES}, 9 PD0/CTCK0_1/SCOM0, 10 PD1/PTP0I_1/SCOM1, 11 PC3/PTP2I_1/SCOM2, 12 PC4/CTCK1_1/SCOM3, 13 PB6/PTP2/SCOM2, 14 PB5/PTP3/SCOM3, 15 PTP2I_0/PA7, 16 RX/PTCK3_1/PC5, 17 TX/PTCK2_1/PC6, 18 PTP3I_1/PD2, 19 PTCK1_1/PD3, 20 A5/SCL/SCK/PA6, 21 A4/SDO/PTCK2_0/PA5, 22 A3/SDA/SDI/PA4, 23 A2/INT1/PTCK3_0/PB2, 24 VREFO/A1/~{SCS}/PTP3I_0/PB1, 25 VREF/A0/INT0/PTP1I/PB0, 26 AVDD/VDD, 27 XT2/PTCK1_0/PB4, 28 XT1/CTCK1_0/PB3

## HT66F0175  20pin
designator U?, comment HT66F0175
LCD/AD型; 1.库作者: 冰凌猫; 2.库版本: v2.0 (2021.03.30); 3.交流分享: Q群514746572,开源更新,欢迎一起交流学习PCB设计; 4.作者声明: 旨为整合最全库集,欢迎转载,禁止商用！-冰凌猫; 5.备注说明: 该库已二次整合过网上各热销库,基本最全,无需重复搜购安装; 0.0_BOM名称: LCD/AD型
footprint SOP20_L (13*10.6*2.6（长宽高）)
footprint SOP20_N (13*10.6*2.6（长宽高）)
footprint SOP20_M (13*10.6*2.6（长宽高）)
pins: 1 AVSS/VSS, 2 PC0/SSEG17/OSC1, 3 PC1/SSEG18/OSC2, 4 PC2/SDO/SSEG0/SCOM0, 5 PA0/TP0/ICPDA/OCDSDA, 6 PA1/[SDO]/~{SCS}/SSEG2/SCOM2, 7 PA2/ICPCK/OCDSCK, 8 PA3/[SDI/SDA]/SSEG3/SCOM3, 9 PB6/[SCK/SCL]/SSEG4/SCOM4, 10 PB5/[~{SCS}]/SSEG5/SCOM5, 11 SSEG6/CLO/PB4, 12 A7/SSEG7/PB3, 13 A6/SSEG8/PA7, 14 VREF/A5/SSEG9/PA6, 15 VREFI/A4/SSEG10/PA5, 16 A3/SSEG13/TCK1/PA4, 17 A2/SSEG14/TCK0/PB2, 18 XT2/A1/SSEG15/INT1/PB1, 19 TX1/A0/SSEG16/INT0/PB0, 20 AVDD/VDD